# Altium schematic symbol library мс импортные.SchLib: 172 symbols
Pins are listed as number, name and electrical type; pins without a type are passive.

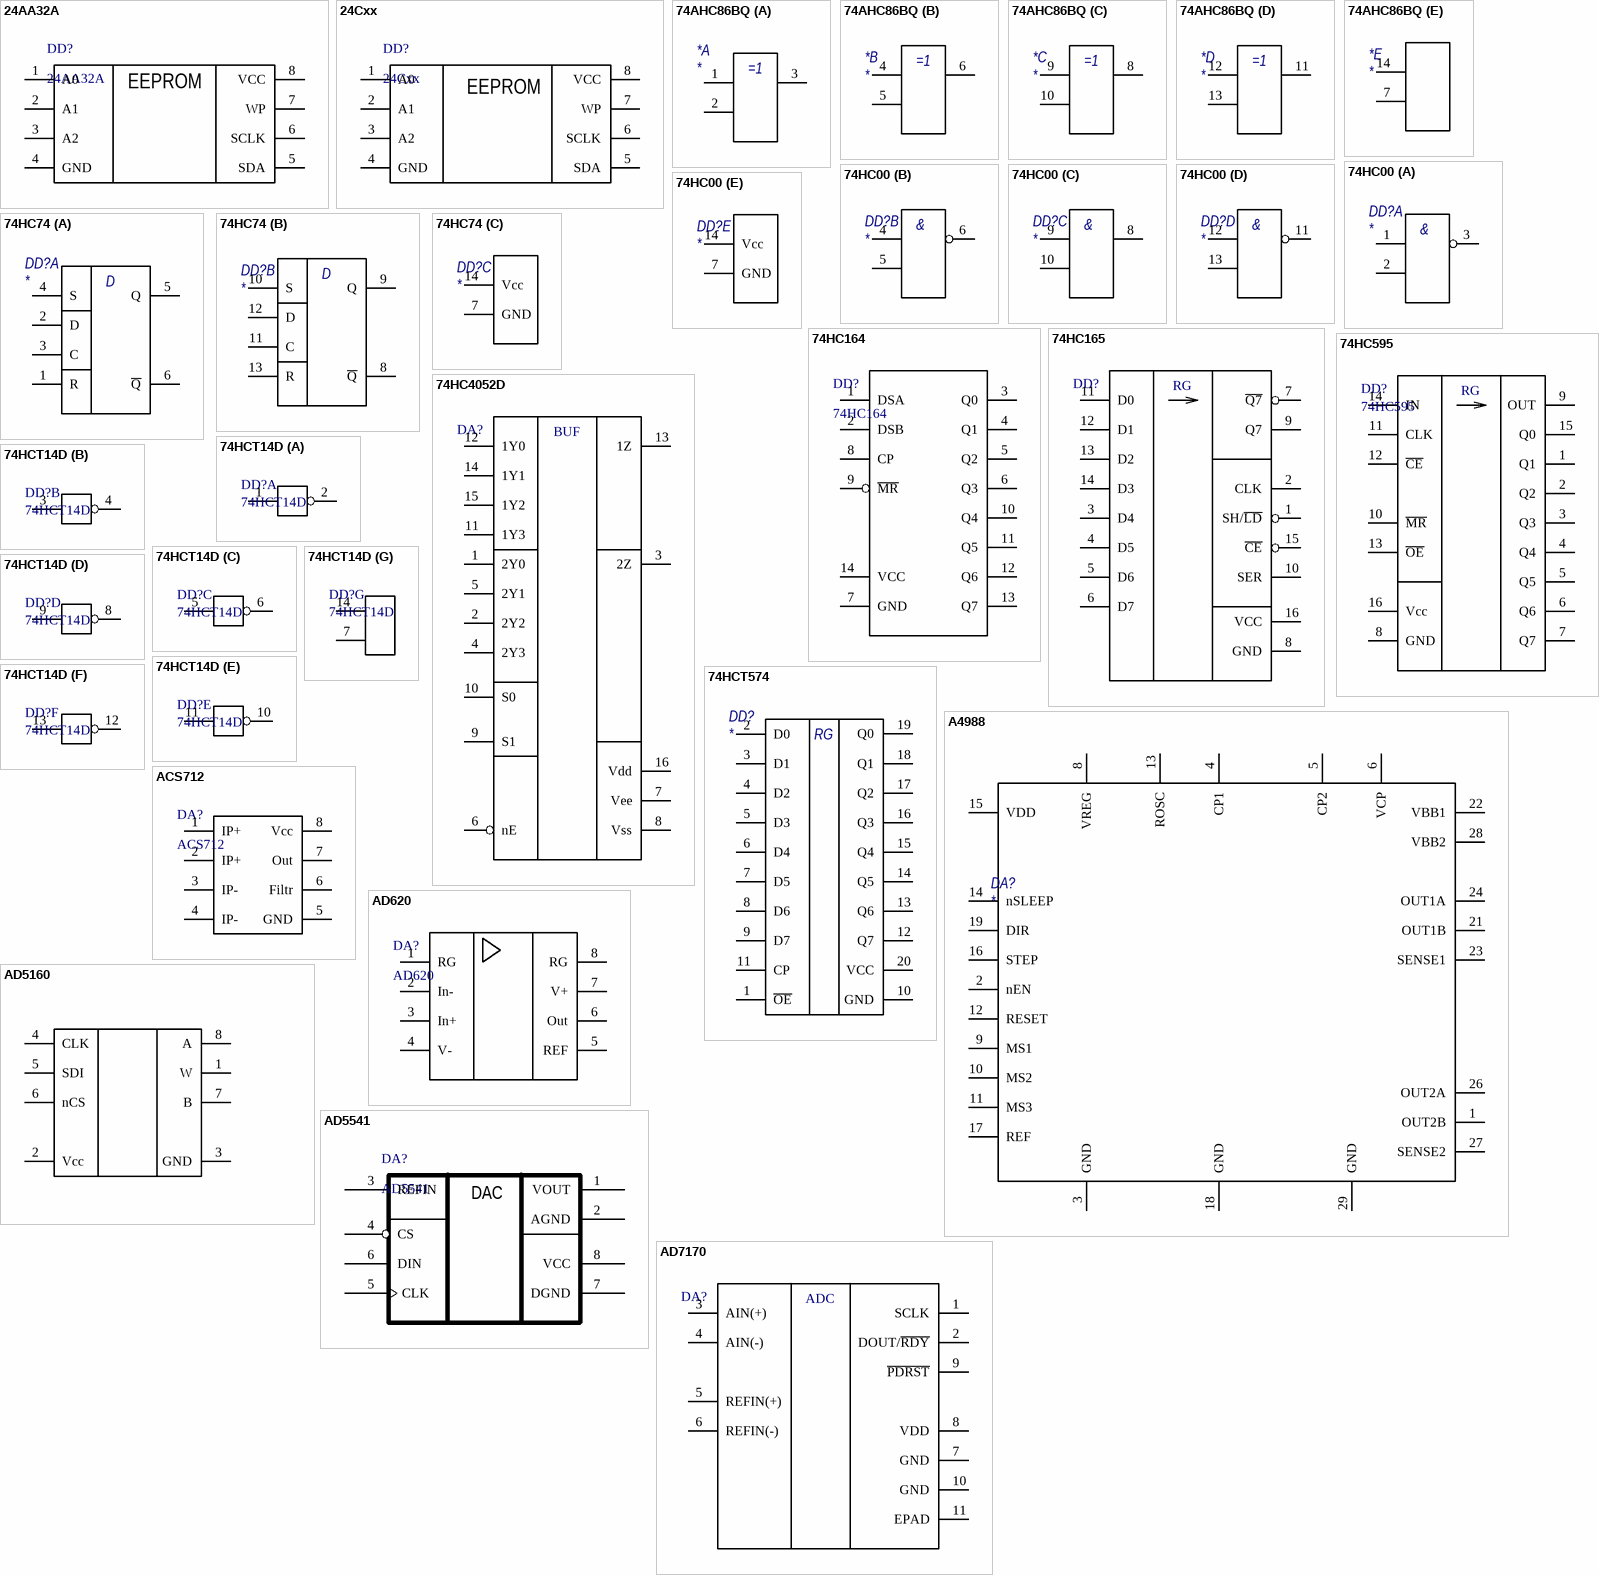
[diagram p0: symbols 24AA32A to AD7170]

## 24AA32A
designator DD?
footprint TSSOP8 (TSOP, 8-Leads, Body 3,00x4,40mm, Pitch 0,65mm, IPC Medium Density)
pins: 1 A0, 2 A1, 3 A2, 4 GND, 5 SDA, 6 SCLK, 7 WP, 8 VCC
text: EEPROM

## 24Cxx
designator DD?
footprint SO-8
pins: 1 A0, 2 A1, 3 A2, 4 GND, 5 SDA, 6 SCLK, 7 WP, 8 VCC
text: EEPROM

## 74AHC86BQ
designator *
part A pins: 1 1A, 2 1B, 3 1Y
part B pins: 4 2A, 5 2B, 6 2Y
part C pins: 8 3Y, 9 3A, 10 3B
part D pins: 11 4Y, 12 4A, 13 4B
part E pins: 7 GND, 14 Vcc

## 74HC00
designator DD?
part A pins: 1 1A, 2 1B, 3 1Y
part B pins: 4 2A, 5 2B, 6 2Y
part C pins: 8 3Y, 9 3A, 10 3B
part D pins: 11 4Y, 12 4A, 13 4B
part E pins: 7 GND, 14 Vcc
part A text: &
part B text: &
part C text: &
part D text: &

## 74HC74
designator DD?
part A pins: 1 R, 2 D, 3 C, 4 S, 5 Q, 6 ~{Q}
part B pins: 8 ~{Q}, 9 Q, 10 S, 11 C, 12 D, 13 R
part C pins: 7 GND, 14 Vcc

## 74HC164
designator DD?
footprint SOP14
pins: 1 DSA, 2 DSB, 3 Q0, 4 Q1, 5 Q2, 6 Q3, 7 GND, 8 CP, 9 ~{MR}, 10 Q4, 11 Q5, 12 Q6, 13 Q7, 14 VCC

## 74HC165
designator DD?  (value not drawn)
Manufacturer: Texas Instruments; ManufacturerPartNumber: SN74HC165DR; Package: SO-16
footprint SO-16 (SOIC, 16-Leads, Body 9,90x3,90mm, Pitch 1,27mm, IPC Medium Density)
pins: 1 SH/~{LD}, 2 CLK, 3 D4, 4 D5, 5 D6, 6 D7, 7 ~{Q7}, 8 GND, 9 Q7, 10 SER, 11 D0, 12 D1, 13 D2, 14 D3, 15 ~{CE}, 16 VCC
text: RG

## 74HC595
designator DD?
Manufacturer: Texas Instruments; ManufacturerPartNumber: SN74HC595D; Package: SO-16
footprint SO-16 (SOIC, 16-Leads, Body 9,90x3,90mm, Pitch 1,27mm, IPC Medium Density)
pins: 1 Q1, 2 Q2, 3 Q3, 4 Q4, 5 Q5, 6 Q6, 7 Q7, 8 GND, 9 OUT, 10 ~{MR}, 11 CLK, 12 ~{CE}, 13 ~{OE}, 14 IN, 15 Q0, 16 Vcc
text: RG

## 74HC4052D
designator DA?, comment 74HC4052D,653NEXPERIASO-16  (value not drawn)
74HC4052D; Rem: *; Package: SO-16; Value: *; Tolerance: *; Power/Voltage: *; TKE: *; ManufacturerPartNumber: 74HC4052D,653; Manufacturer: NEXPERIA; Quantity: *; Примечание: *; Price: *
footprint SO-16 (SOIC, 16-Leads, Body 9,90x3,90mm, Pitch 1,27mm, IPC Medium Density)
pins: 1 2Y0, 2 2Y2, 3 2Z, 4 2Y3, 5 2Y1, 6 nE, 7 Vee, 8 Vss, 9 S1, 10 S0, 11 1Y3, 12 1Y0, 13 1Z, 14 1Y1, 15 1Y2, 16 Vdd
text: BUF

## 74HCT14D
designator DD?
part A pins: 1, 2
part B pins: 3, 4
part C pins: 5, 6
part D pins: 8, 9
part E pins: 10, 11
part F pins: 12, 13
part G pins: 7 GND, 14 Vcc

## 74HCT574
designator DD?
pins: 1 ~{OE}, 2 D0, 3 D1 (power), 4 D2, 5 D3, 6 D4, 7 D5, 8 D6, 9 D7 (power), 10 GND, 11 CP, 12 Q7, 13 Q6, 14 Q5, 15 Q4, 16 Q3, 17 Q2, 18 Q1, 19 Q0, 20 VCC
text: RG

## A4988
designator DA?
pins: 1 OUT2B, 2 nEN, 3 GND, 4 CP1, 5 CP2, 6 VCP, 8 VREG, 9 MS1, 10 MS2, 11 MS3, 12 RESET, 13 ROSC, 14 nSLEEP, 15 VDD, 16 STEP, 17 REF, 18 GND, 19 DIR, 21 OUT1B, 22 VBB1, 23 SENSE1, 24 OUT1A, 26 OUT2A, 27 SENSE2, 28 VBB2, 29 GND

## ACS712
designator DA?
footprint SO-8
pins: 1 IP+, 2 IP+, 3 IP-, 4 IP-, 5 GND, 6 Filtr, 7 Out, 8 Vcc

## AD620
designator DA?
footprint DIP-8
pins: 1 RG, 2 In-, 3 In+, 4 V-, 5 REF, 6 Out, 7 V+, 8 RG

## AD5160
designator DA?
AD5160
pins: 1 W, 2 Vcc, 3 GND, 4 CLK, 5 SDI, 6 nCS, 7 B, 8 A

## AD5541
designator DA?
footprint SOIC-8
pins: 1 VOUT, 2 AGND, 3 REFIN, 4 CS, 5 CLK, 6 DIN, 7 DGND, 8 VCC
text: DAC

## AD7170
designator DA?, comment AD7170BCPZ-500RL7Analog DevicesLFCSP_WD  (value not drawn)
AD7170; Rem: *; Package: LFCSP_WD; Value: *; Tolerance: *; Power/Voltage: *; TKE: *; ManufacturerPartNumber: AD7170BCPZ-500RL7; Manufacturer: Analog Devices; Quantity: *; Примечание: *; Price: *
footprint LFCSP_WD_10
pins: 1 SCLK, 2 DOUT/~{RDY}, 3 AIN(+), 4 AIN(-), 5 REFIN(+), 6 REFIN(-), 7 GND, 8 VDD, 9 ~{PDRST}, 10 GND, 11 hidden to GND, 11 EPAD
text: ADC

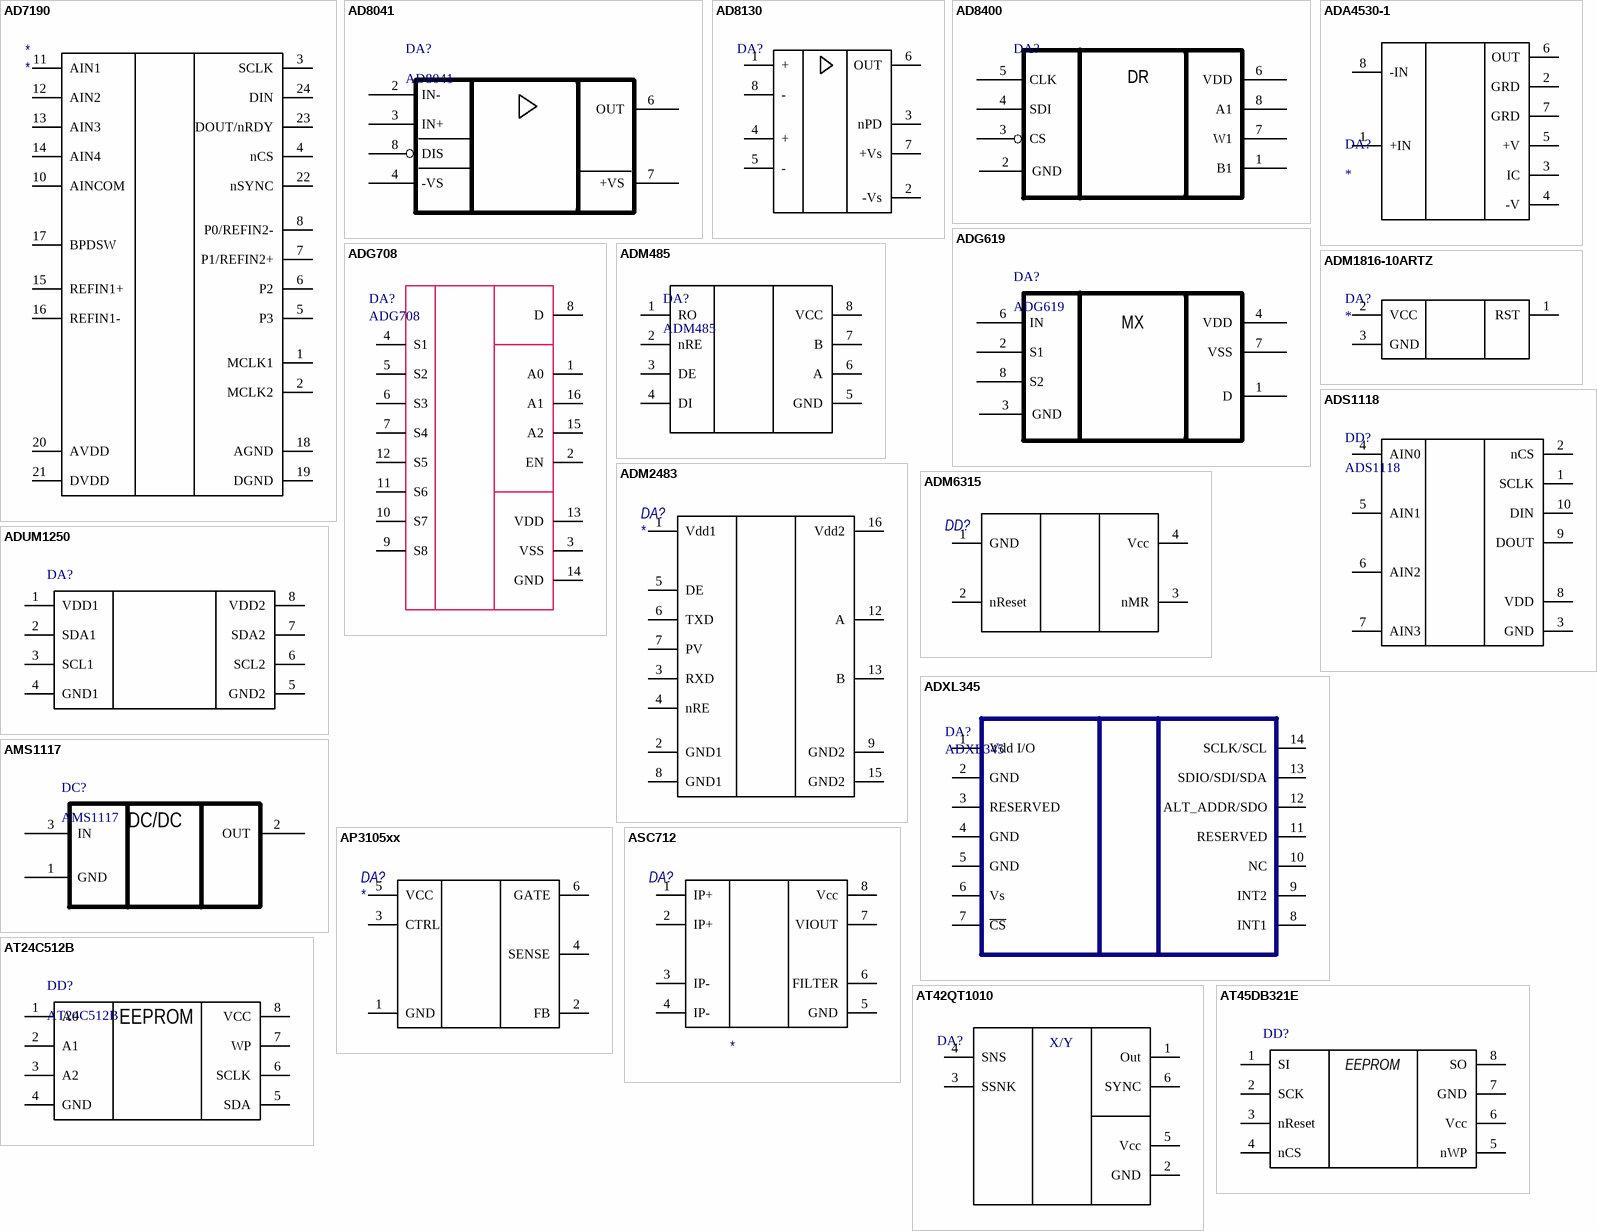
[diagram p1: symbols AD7190 to AT45DB321E]

## AD7190
designator *
pins: 1 MCLK1, 2 MCLK2, 3 SCLK, 4 nCS, 5 P3, 6 P2, 7 P1/REFIN2+, 8 P0/REFIN2-, 10 AINCOM, 11 AIN1, 12 AIN2, 13 AIN3, 14 AIN4, 15 REFIN1+, 16 REFIN1-, 17 BPDSW, 18 AGND, 19 DGND, 20 AVDD, 21 DVDD, 22 nSYNC, 23 DOUT/nRDY, 24 DIN

## AD8041
designator DA?
footprint SOIC-8
pins: 2 IN-, 3 IN+, 4 -VS, 6 OUT, 7 +VS, 8 DIS

## AD8130
designator DA?, comment ***  (value not drawn)
Rem: *; Package: *; Value: *; Tolerance: *; Power/Voltage: *; TKE: *; ManufacturerPartNumber: *; Manufacturer: *; Quantity: *; Примечание: *
pins: 1 +, 2 -Vs, 3 nPD, 4 +, 5 -, 6 OUT, 7 +Vs, 8 -

## AD8400
designator DA?  (value not drawn)
footprint SOIC-8
pins: 1 B1, 2 GND, 3 CS, 4 SDI, 5 CLK, 6 VDD, 7 W1, 8 A1
text: DR

## ADA4530-1
designator DA?
pins: 1 +IN, 2 GRD, 3 IC, 4 -V, 5 +V, 6 OUT, 7 GRD, 8 -IN

## ADG619
designator DA?
footprint SOT23-8
pins: 1 D, 2 S1, 3 GND, 4 VDD, 6 IN, 7 VSS, 8 S2
text: MX

## ADG708
designator DA?
footprint TSSOP16 (SOP, 16-Leads, Body 5,00x4,40mm, Pitch 0,65mm, IPC Medium Density)
pins: 1 A0, 2 EN, 3 VSS, 4 S1, 5 S2, 6 S3, 7 S4, 8 D, 9 S8, 10 S7, 11 S6, 12 S5, 13 VDD, 14 GND, 15 A2, 16 A1

## ADM485
designator DA?
footprint SO-8
pins: 1 RO, 2 nRE, 3 DE, 4 DI, 5 GND, 6 A, 7 B, 8 VCC

## ADM1816-10ARTZ
designator DA?
pins: 1 RST, 2 VCC, 3 GND

## ADM2483
designator DA?
ADM2483
pins: 1 Vdd1, 2 GND1, 3 RXD, 4 nRE, 5 DE, 6 TXD, 7 PV, 8 GND1, 9 GND2, 12 A, 13 B, 15 GND2, 16 Vdd2

## ADM6315
designator DD?  (value not drawn)
pins: 1 GND, 2 nReset, 3 nMR, 4 Vcc

## ADS1118
designator DD?
footprint TSSOP8 (TSOP, 8-Leads, Body 3,00x4,40mm, Pitch 0,65mm, IPC Medium Density)
pins: 1 SCLK, 2 nCS, 3 GND, 4 AIN0, 5 AIN1, 6 AIN2, 7 AIN3, 8 VDD, 9 DOUT, 10 DIN

## ADUM1250
designator DA?
pins: 1 VDD1, 2 SDA1, 3 SCL1, 4 GND1, 5 GND2, 6 SCL2, 7 SDA2, 8 VDD2

## ADXL345
designator DA?
footprint ADXL345
pins: 1 Vdd I/O, 2 GND, 3 RESERVED, 4 GND, 5 GND, 6 Vs, 7 ~{CS}, 8 INT1, 9 INT2, 10 NC, 11 RESERVED, 12 ALT_ADDR/SDO, 13 SDIO/SDI/SDA, 14 SCLK/SCL

## AMS1117
designator DC?
footprint TO252
pins: 1 GND, 2 OUT, 3 IN
text: DC/DC

## AP3105xx
designator DA?
pins: 1 GND, 2 FB, 3 CTRL, 4 SENSE, 5 VCC, 6 GATE

## ASC712
designator DA?
ManufacturerPartNumber: *
pins: 1 IP+, 2 IP+, 3 IP-, 4 IP-, 5 GND, 6 FILTER, 7 VIOUT, 8 Vcc

## AT24C512B
designator DD?
footprint SOIC-8
pins: 1 A0, 2 A1, 3 A2, 4 GND, 5 SDA, 6 SCLK, 7 WP, 8 VCC
text: EEPROM

## AT42QT1010
designator DA?, comment ***  (value not drawn)
Rem: *; Package: *; Value: *; Tolerance: *; Power/Voltage: *; TKE: *; ManufacturerPartNumber: *; Manufacturer: *; Quantity: *; Примечание: *
footprint SOT23-6 (SOT23, 6-Leads, Body 2,90x2,45mm, Pitch 0,95mm, IPC Medium Density)
pins: 1 Out, 2 GND, 3 SSNK, 4 SNS, 5 Vcc, 6 SYNC
text: X/Y

## AT45DB321E
designator DD?
footprint SOIC-8
pins: 1 SI, 2 SCK, 3 nReset, 4 nCS, 5 nWP, 6 Vcc, 7 GND, 8 SO
text: EEPROM

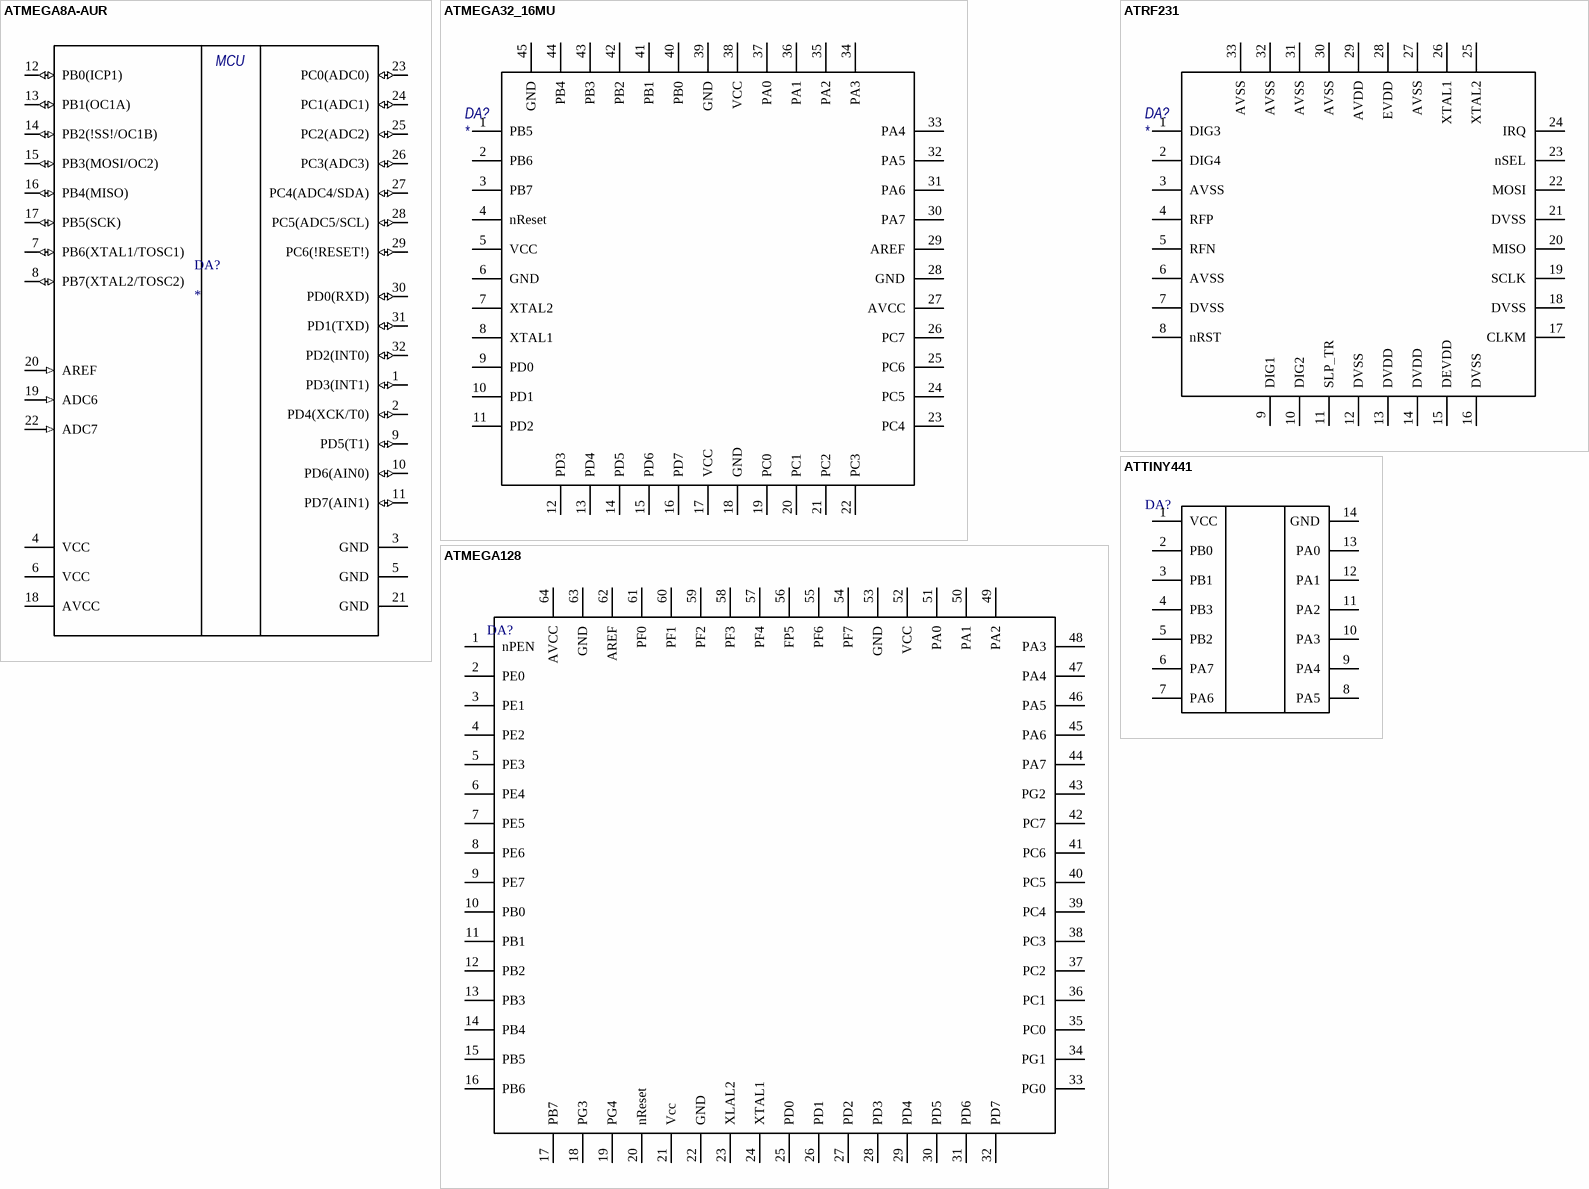
[diagram p2: symbols ATMEGA8A-AUR to ATTINY441]

## ATMEGA8A-AUR
designator DA?
ATMEGA8A-AUR; MF: Microchip; MP: ATMEGA8A-AUR; Availability: Unavailable; Package: TQFP-32 Microchip; Value: *; Price: None; SnapEDA_Link: https://www.snapeda.com/parts/ATMEGA8A-AUR/Microchip/view-part/630535/?ref=snap
footprint QFP80P900X900X120-32N
pins: 1 PD3(INT1) (io), 2 PD4(XCK/T0) (io), 3 GND (power), 4 VCC (power), 5 GND (power), 6 VCC (power), 7 PB6(XTAL1/TOSC1) (io), 8 PB7(XTAL2/TOSC2) (io), 9 PD5(T1) (io), 10 PD6(AIN0) (io), 11 PD7(AIN1) (io), 12 PB0(ICP1) (io), 13 PB1(OC1A) (io), 14 PB2(!SS!/OC1B) (io), 15 PB3(MOSI/OC2) (io), 16 PB4(MISO) (io), 17 PB5(SCK) (io), 18 AVCC (power), 19 ADC6 (in), 20 AREF (in), 21 GND (power), 22 ADC7 (in), 23 PC0(ADC0) (io), 24 PC1(ADC1) (io), 25 PC2(ADC2) (io), 26 PC3(ADC3) (io), 27 PC4(ADC4/SDA) (io), 28 PC5(ADC5/SCL) (io), 29 PC6(!RESET!) (io), 30 PD0(RXD) (io), 31 PD1(TXD) (io), 32 PD2(INT0) (io)
text: MCU

## ATMEGA32_16MU
designator DA?
pins: 1 PB5, 2 PB6, 3 PB7, 4 nReset, 5 VCC, 6 GND, 7 XTAL2, 8 XTAL1, 9 PD0, 10 PD1, 11 PD2, 12 PD3, 13 PD4, 14 PD5, 15 PD6, 16 PD7, 17 VCC, 18 GND, 19 PC0, 20 PC1, 21 PC2, 22 PC3, 23 PC4, 24 PC5, 25 PC6, 26 PC7, 27 AVCC, 28 GND, 29 AREF, 30 PA7, 31 PA6, 32 PA5, 33 PA4, 34 PA3, 35 PA2, 36 PA1, 37 PA0, 38 VCC, 39 GND, 40 PB0, 41 PB1, 42 PB2, 43 PB3, 44 PB4, 45 GND

## ATMEGA128
designator DA?  (value not drawn)
ATMEGA128
pins: 1 nPEN, 2 PE0, 3 PE1, 4 PE2, 5 PE3, 6 PE4, 7 PE5, 8 PE6, 9 PE7, 10 PB0, 11 PB1, 12 PB2, 13 PB3, 14 PB4, 15 PB5, 16 PB6, 17 PB7, 18 PG3, 19 PG4, 20 nReset, 21 Vcc, 22 GND, 23 XLAL2, 24 XTAL1, 25 PD0, 26 PD1, 27 PD2, 28 PD3, 29 PD4, 30 PD5, 31 PD6, 32 PD7, 33 PG0, 34 PG1, 35 PC0, 36 PC1, 37 PC2, 38 PC3, 39 PC4, 40 PC5, 41 PC6, 42 PC7, 43 PG2, 44 PA7, 45 PA6, 46 PA5, 47 PA4, 48 PA3, 49 PA2, 50 PA1, 51 PA0, 52 VCC, 53 GND, 54 PF7, 55 PF6, 56 FP5, 57 PF4, 58 PF3, 59 PF2, 60 PF1, 61 PF0, 62 AREF, 63 GND, 64 AVCC

## ATRF231
designator DA?
pins: 1 DIG3, 2 DIG4, 3 AVSS, 4 RFP, 5 RFN, 6 AVSS, 7 DVSS, 8 nRST, 9 DIG1, 10 DIG2, 11 SLP_TR, 12 DVSS, 13 DVDD, 14 DVDD, 15 DEVDD, 16 DVSS, 17 CLKM, 18 DVSS, 19 SCLK, 20 MISO, 21 DVSS, 22 MOSI, 23 nSEL, 24 IRQ, 25 XTAL2, 26 XTAL1, 27 AVSS, 28 EVDD, 29 AVDD, 30 AVSS, 31 AVSS, 32 AVSS, 33 AVSS

## ATTINY441
designator DA?  (value not drawn)
pins: 1 VCC, 2 PB0, 3 PB1, 4 PB3, 5 PB2, 6 PA7, 7 PA6, 8 PA5, 9 PA4, 10 PA3, 11 PA2, 12 PA1, 13 PA0, 14 GND

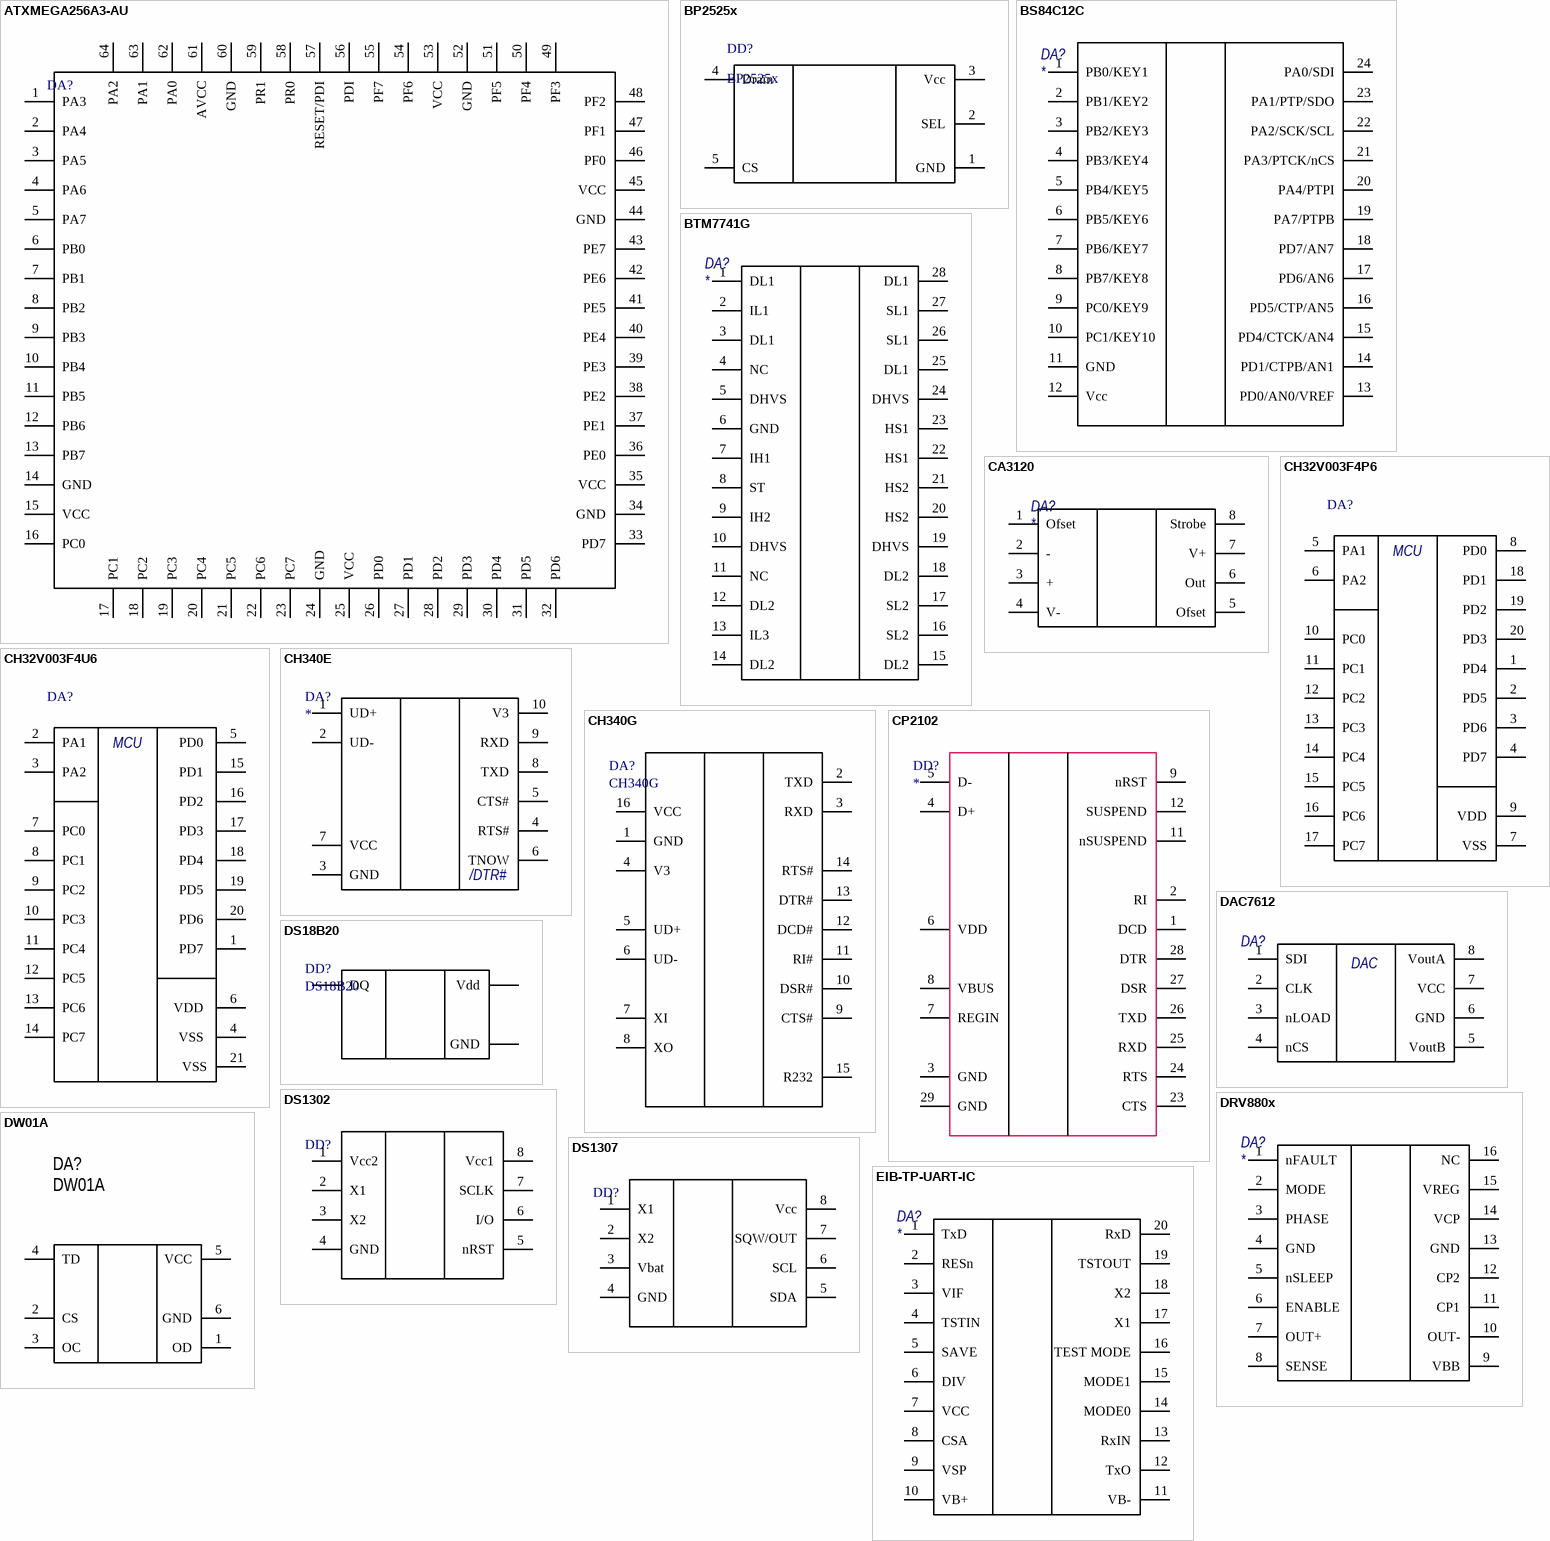
[diagram p3: symbols ATXMEGA256A3-AU to EIB-TP-UART-IC]

## ATXMEGA256A3-AU
designator DA?  (value not drawn)
ATXMEGA256A3-AU
pins: 1 PA3, 2 PA4, 3 PA5, 4 PA6, 5 PA7, 6 PB0, 7 PB1, 8 PB2, 9 PB3, 10 PB4, 11 PB5, 12 PB6, 13 PB7, 14 GND, 15 VCC, 16 PC0, 17 PC1, 18 PC2, 19 PC3, 20 PC4, 21 PC5, 22 PC6, 23 PC7, 24 GND, 25 VCC, 26 PD0, 27 PD1, 28 PD2, 29 PD3, 30 PD4, 31 PD5, 32 PD6, 33 PD7, 34 GND, 35 VCC, 36 PE0, 37 PE1, 38 PE2, 39 PE3, 40 PE4, 41 PE5, 42 PE6, 43 PE7, 44 GND, 45 VCC, 46 PF0, 47 PF1, 48 PF2, 49 PF3, 50 PF4, 51 PF5, 52 GND, 53 VCC, 54 PF6, 55 PF7, 56 PDI, 57 RESET/PDI, 58 PR0, 59 PR1, 60 GND, 61 AVCC, 62 PA0, 63 PA1, 64 PA2

## BP2525x
designator DD?
pins: 1 GND, 2 SEL, 3 Vcc, 4 Drain, 5 CS

## BS84C12C
designator DA?
pins: 1 PB0/KEY1, 2 PB1/KEY2, 3 PB2/KEY3, 4 PB3/KEY4, 5 PB4/KEY5, 6 PB5/KEY6, 7 PB6/KEY7, 8 PB7/KEY8, 9 PC0/KEY9  , 10 PC1/KEY10, 11 GND, 12 Vcc, 13 PD0/AN0/VREF, 14 PD1/CTPB/AN1, 15 PD4/CTCK/AN4, 16 PD5/CTP/AN5, 17 PD6/AN6, 18 PD7/AN7, 19 PA7/PTPB, 20 PA4/PTPI, 21 PA3/PTCK/nCS, 22 PA2/SCK/SCL, 23 PA1/PTP/SDO, 24 PA0/SDI

## BTM7741G
designator DA?
pins: 1 DL1, 2 IL1, 3 DL1, 4 NC, 5 DHVS, 6 GND, 7 IH1, 8 ST, 9 IH2, 10 DHVS, 11 NC, 12 DL2, 13 IL3, 14 DL2, 15 DL2, 16 SL2, 17 SL2, 18 DL2, 19 DHVS, 20 HS2, 21 HS2, 22 HS1, 23 HS1, 24 DHVS, 25 DL1, 26 SL1, 27 SL1, 28 DL1

## CA3120
designator DA?
pins: 1 Ofset, 2 -, 3 +, 4 V-, 5 Ofset, 6 Out, 7 V+, 8 Strobe

## CH32V003F4P6
designator DA?  (value not drawn)
pins: 1 PD4, 2 PD5, 3 PD6, 4 PD7, 5 PA1, 6 PA2, 7 VSS, 8 PD0, 9 VDD, 10 PC0, 11 PC1, 12 PC2, 13 PC3, 14 PC4, 15 PC5, 16 PC6, 17 PC7, 18 PD1, 19 PD2, 20 PD3
text: MCU

## CH32V003F4U6
designator DA?  (value not drawn)
pins: 1 PD7 , 2 PA1 , 3 PA2 , 4 VSS , 5 PD0 , 6 VDD , 7 PC0 , 8 PC1 , 9 PC2 , 10 PC3 , 11 PC4 , 12 PC5 , 13 PC6 , 14 PC7 , 15 PD1 , 16 PD2 , 17 PD3 , 18 PD4 , 19 PD5 , 20 PD6 , 21 VSS
text: MCU

## CH340E
designator DA?
footprint MSOIC-10
pins: 1 UD+, 2 UD-, 3 GND, 4 RTS#, 5 CTS#, 6 TNOW, 7 VCC, 8 TXD, 9 RXD, 10 V3
text: /DTR#

## CH340G
designator DA?
footprint SO16 (SOIC, 16-Leads, Body 9,90x0,18mm, Pitch 1,27mm, IPC Medium Density)
pins: 1 GND, 2 TXD, 3 RXD, 4 V3, 5 UD+, 6 UD-, 7 XI, 8 XO, 9 CTS#, 10 DSR#, 11 RI#, 12 DCD#, 13 DTR#, 14 RTS#, 15 R232, 16 VCC

## CP2102
designator DD?
pins: 1 DCD, 2 RI, 3 GND, 4 D+, 5 D-, 6 VDD, 7 REGIN, 8 VBUS, 9 nRST, 11 nSUSPEND, 12   SUSPEND, 23 CTS, 24 RTS, 25 RXD, 26 TXD, 27 DSR, 28 DTR, 29 GND

## DAC7612
designator DA?  (value not drawn)
pins: 1 SDI, 2 CLK, 3 nLOAD, 4 nCS, 5 VoutB, 6 GND, 7 VCC, 8 VoutA
text: DAC

## DRV880x
designator DA?
pins: 1 nFAULT, 2 MODE, 3 PHASE, 4 GND, 5 nSLEEP, 6 ENABLE, 7 OUT+, 8 SENSE, 9 VBB, 10 OUT-, 11 CP1, 12 CP2, 13 GND, 14 VCP, 15 VREG, 16 NC

## DS18B20
designator DD?
pins: 1 GND, 2 DQ, 3 Vdd

## DS1302
designator DD?, comment ***  (value not drawn)
Rem: *; Package: *; Value: *; Tolerance: *; Power/Voltage: *; TKE: *; ManufacturerPartNumber: *; Manufacturer: *; Quantity: *; Примечание: *
footprint SO-8
pins: 1 Vcc2, 2 X1, 3 X2, 4 GND, 5 nRST, 6 I/O, 7 SCLK, 8 Vcc1

## DS1307
designator DD?, comment ***  (value not drawn)
Rem: *; Package: *; Value: *; Tolerance: *; Power/Voltage: *; TKE: *; ManufacturerPartNumber: *; Manufacturer: *; Quantity: *; Примечание: *
footprint SO-8
pins: 1 X1, 2 X2, 3 Vbat, 4 GND, 5 SDA, 6 SCL, 7 SQW/OUT, 8 Vcc

## DW01A
designator DA?
footprint SOT23-6 (SOT23, 6-Leads, Body 2,90x2,45mm, Pitch 0,95mm, IPC Medium Density)
pins: 1 OD, 2 CS, 3 OC, 4 TD, 5 VCC, 6 GND

## EIB-TP-UART-IC
designator DA?
pins: 1 TxD, 2 RESn, 3 VIF, 4 TSTIN, 5 SAVE, 6 DIV, 7 VCC, 8 CSA, 9 VSP, 10 VB+, 11 VB-, 12 TxO, 13 RxIN, 14 MODE0, 15 MODE1, 16 TEST MODE, 17 X1, 18 X2, 19 TSTOUT, 20 RxD

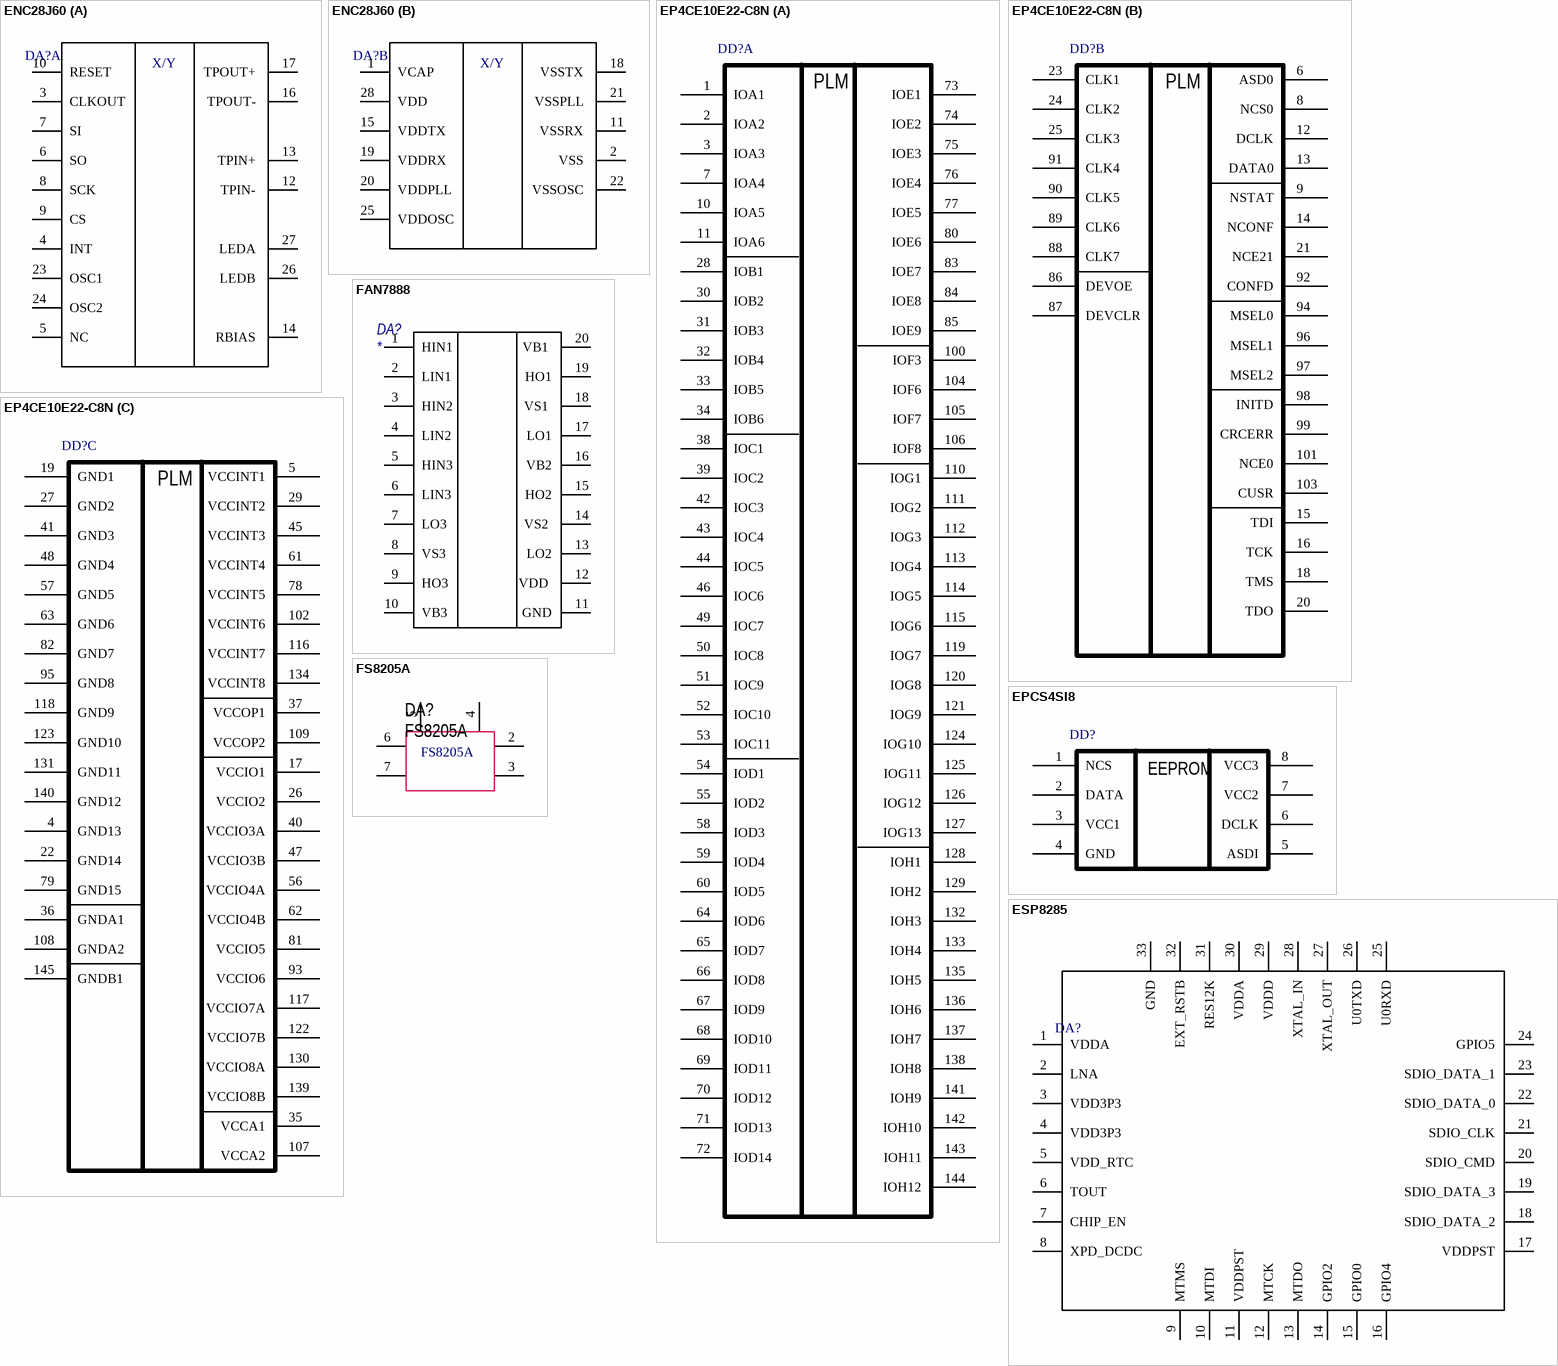
[diagram p4: symbols ENC28J60 to FS8205A]

## ENC28J60
designator DA?, comment ***  (value not drawn)
Rem: *; Package: *; Value: *; Tolerance: *; Power/Voltage: *; TKE: *; ManufacturerPartNumber: *; Manufacturer: *; Quantity: *; Примечание: *
part A pins: 3 CLKOUT , 4 INT , 5 NC , 6 SO , 7 SI , 8 SCK , 9 CS , 10 RESET , 12 TPIN- , 13 TPIN+ , 14 RBIAS , 16 TPOUT- , 17 TPOUT+ , 23 OSC1 , 24 OSC2 , 26 LEDB , 27 LEDA 
part B pins: 1 VCAP , 2 VSS , 11 VSSRX , 15 VDDTX , 18 VSSTX , 19 VDDRX , 20 VDDPLL , 21 VSSPLL , 22 VSSOSC , 25 VDDOSC , 28 VDD 
part A text: X/Y
part B text: X/Y

## EP4CE10E22-C8N
designator DD?  (value not drawn)
footprint EQFP144
part A pins: 1 IOA1, 2 IOA2, 3 IOA3, 7 IOA4, 10 IOA5, 11 IOA6, 28 IOB1, 30 IOB2, 31 IOB3, 32 IOB4, 33 IOB5, 34 IOB6, 38 IOC1, 39 IOC2, 42 IOC3, 43 IOC4, 44 IOC5, 46 IOC6, 49 IOC7, 50 IOC8, 51 IOC9, 52 IOC10, 53 IOC11, 54 IOD1, 55 IOD2, 58 IOD3, 59 IOD4, 60 IOD5, 64 IOD6, 65 IOD7, 66 IOD8, 67 IOD9, 68 IOD10, 69 IOD11, 70 IOD12, 71 IOD13, 72 IOD14, 73 IOE1, 74 IOE2, 75 IOE3, 76 IOE4, 77 IOE5, 80 IOE6, 83 IOE7, 84 IOE8, 85 IOE9, 100 IOF3, 104 IOF6, 105 IOF7, 106 IOF8, 110 IOG1, 111 IOG2, 112 IOG3, 113 IOG4, 114 IOG5, 115 IOG6, 119 IOG7, 120 IOG8, 121 IOG9, 124 IOG10, 125 IOG11, 126 IOG12, 127 IOG13, 128 IOH1, 129 IOH2, 132 IOH3, 133 IOH4, 135 IOH5, 136 IOH6, 137 IOH7, 138 IOH8, 141 IOH9, 142 IOH10, 143 IOH11, 144 IOH12
part B pins: 6 ASD0, 8 NCS0, 9 NSTAT, 12 DCLK, 13 DATA0, 14 NCONF, 15 TDI, 16 TCK, 18 TMS, 20 TDO, 21 NCE21, 23 CLK1, 24 CLK2, 25 CLK3, 86 DEVOE, 87 DEVCLR, 88 CLK7, 89 CLK6, 90 CLK5, 91 CLK4, 92 CONFD, 94 MSEL0, 96 MSEL1, 97 MSEL2, 98 INITD, 99 CRCERR, 101 NCE0, 103 CUSR
part C pins: 4 GND13, 5 VCCINT1, 17 VCCIO1, 19 GND1, 22 GND14, 26 VCCIO2, 27 GND2, 29 VCCINT2, 35 VCCA1, 36 GNDA1, 37 VCCOP1, 40 VCCIO3A, 41 GND3, 45 VCCINT3, 47 VCCIO3B, 48 GND4, 56 VCCIO4A, 57 GND5, 61 VCCINT4, 62 VCCIO4B, 63 GND6, 78 VCCINT5, 79 GND15, 81 VCCIO5, 82 GND7, 93 VCCIO6, 95 GND8, 102 VCCINT6, 107 VCCA2, 108 GNDA2, 109 VCCOP2, 116 VCCINT7, 117 VCCIO7A, 118 GND9, 122 VCCIO7B, 123 GND10, 130 VCCIO8A, 131 GND11, 134 VCCINT8, 139 VCCIO8B, 140 GND12, 145 GNDB1
part A text: PLM
part B text: PLM
part C text: PLM

## EPCS4SI8
designator DD?  (value not drawn)
footprint SOIC-8
pins: 1 NCS, 2 DATA, 3 VCC1, 4 GND, 5 ASDI, 6 DCLK, 7 VCC2, 8 VCC3
text: EEPROM

## ESP8285
designator DA?  (value not drawn)
ESP8285
pins: 1 VDDA, 2 LNA, 3 VDD3P3, 4 VDD3P3, 5 VDD_RTC, 6 TOUT, 7 CHIP_EN, 8 XPD_DCDC, 9 MTMS, 10 MTDI, 11 VDDPST, 12 MTCK, 13 MTDO, 14 GPIO2, 15 GPIO0, 16 GPIO4, 17 VDDPST, 18 SDIO_DATA_2, 19 SDIO_DATA_3, 20 SDIO_CMD, 21 SDIO_CLK, 22 SDIO_DATA_0, 23 SDIO_DATA_1, 24 GPIO5, 25 U0RXD, 26 U0TXD, 27 XTAL_OUT, 28 XTAL_IN, 29 VDDD, 30 VDDA, 31 RES12K, 32 EXT_RSTB, 33 GND

## FAN7888
designator DA?
pins: 1 HIN1, 2 LIN1, 3 HIN2, 4 LIN2, 5 HIN3, 6 LIN3, 7 LO3, 8 VS3 , 9 HO3, 10 VB3 , 11 GND, 12 VDD , 13 LO2, 14 VS2 , 15 HO2, 16 VB2, 17 LO1, 18 VS1 , 19 HO1, 20 VB1 

## FS8205A
designator DA?
footprint TSSOP8 (TSOP, 8-Leads, Body 3,00x4,40mm, Pitch 0,65mm, IPC Medium Density)
pins: 2, 3, 4, 5, 6, 7

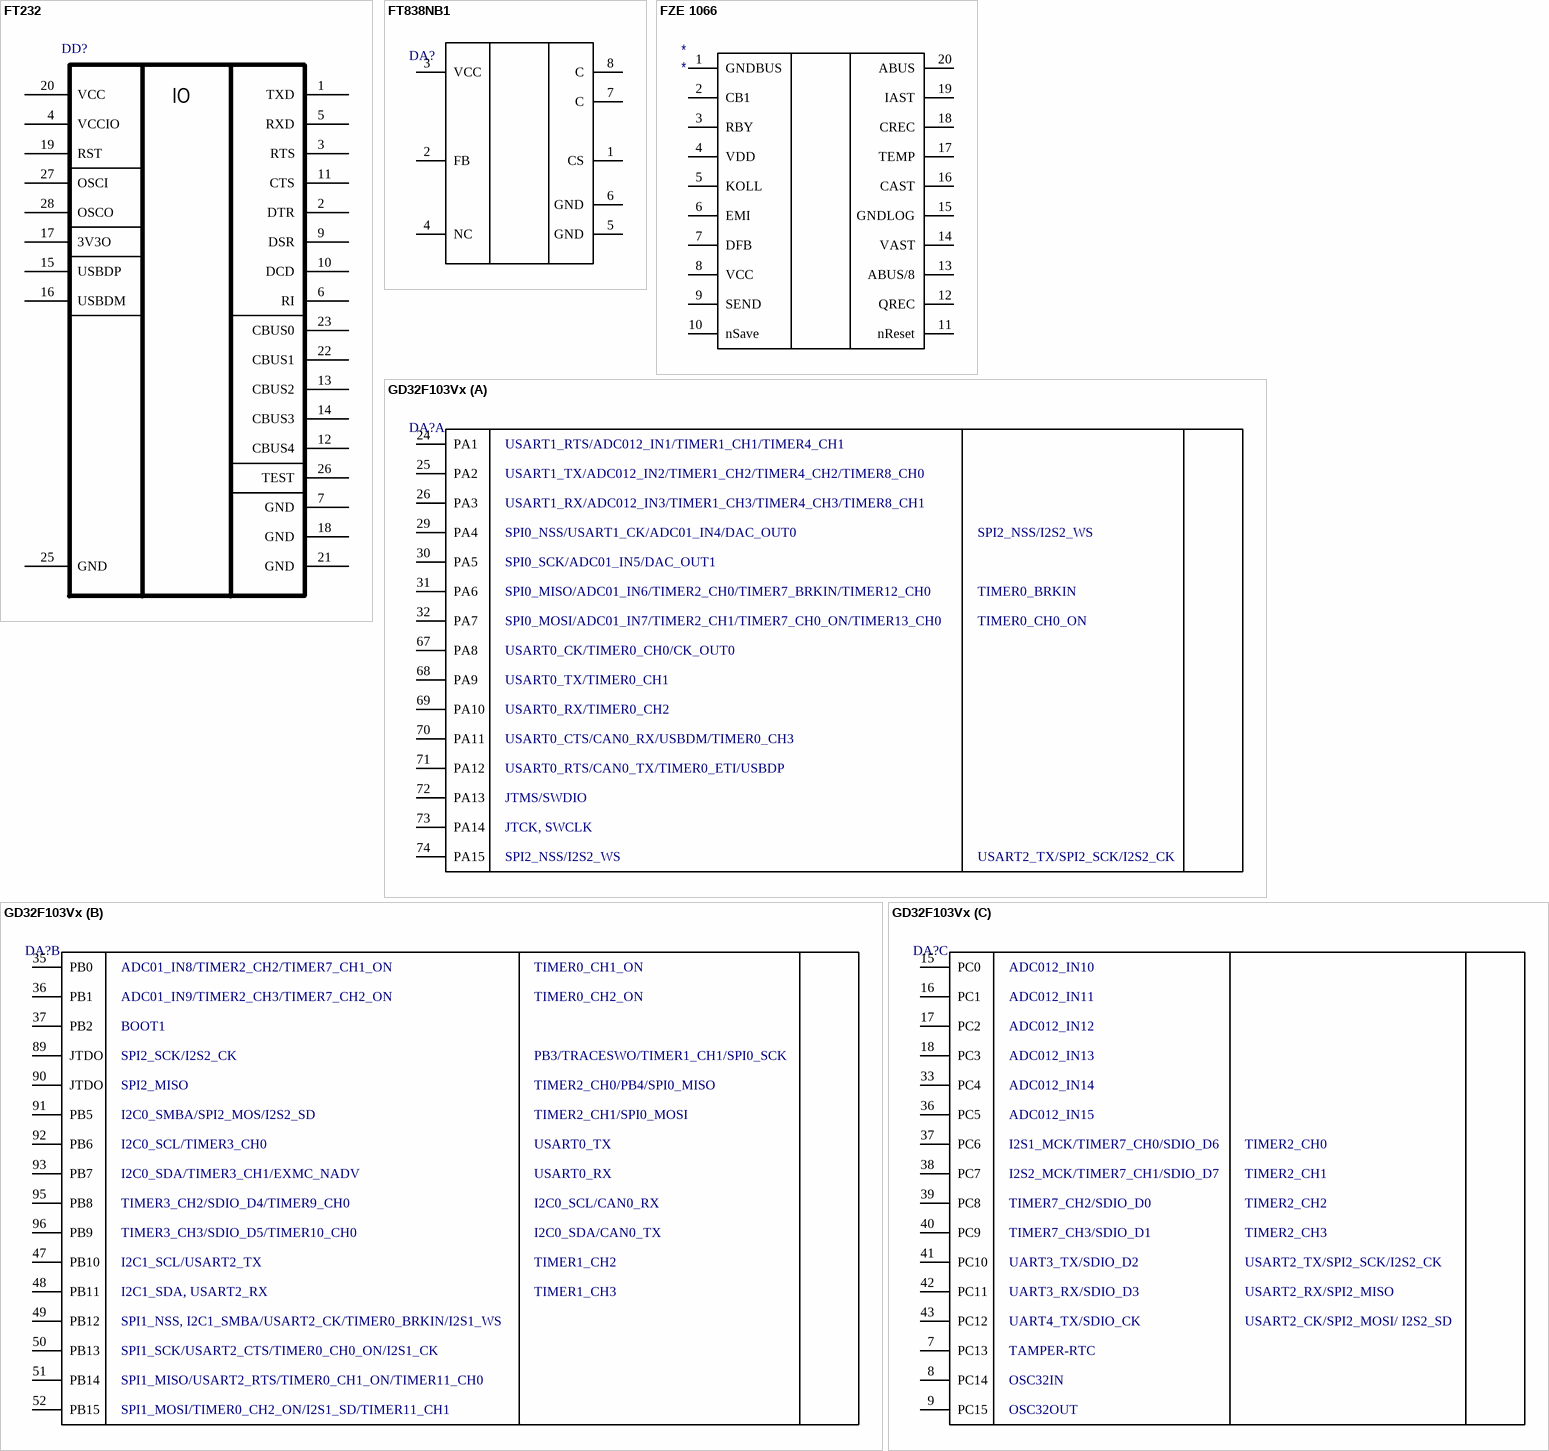
[diagram p5: symbols FT232 to GD32F103Vx]

## FT232
designator DD?  (value not drawn)
footprint SSOP-28
pins: 1 TXD, 2 DTR, 3 RTS, 4 VCCIO, 5 RXD, 6 RI, 7 GND, 9 DSR, 10 DCD, 11 CTS, 12 CBUS4, 13 CBUS2, 14 CBUS3, 15 USBDP, 16 USBDM, 17 3V3O, 18 GND, 19 RST, 20 VCC, 21 GND, 22 CBUS1, 23 CBUS0, 25 GND, 26 TEST, 27 OSCI, 28 OSCO
text: IO

## FT838NB1
designator DA?  (value not drawn)
FT838NB1
pins: 1 CS, 2 FB, 3 VCC, 4 NC, 5 GND, 6 GND, 7 C, 8 C

## FZE 1066
designator *
pins: 1 GNDBUS, 2 CB1, 3 RBY, 4 VDD, 5 KOLL, 6 EMI, 7 DFB, 8 VCC, 9 SEND, 10 nSave, 11 nReset, 12 QREC, 13 ABUS/8, 14 VAST, 15 GNDLOG, 16 CAST, 17 TEMP, 18 CREC, 19 IAST, 20 ABUS

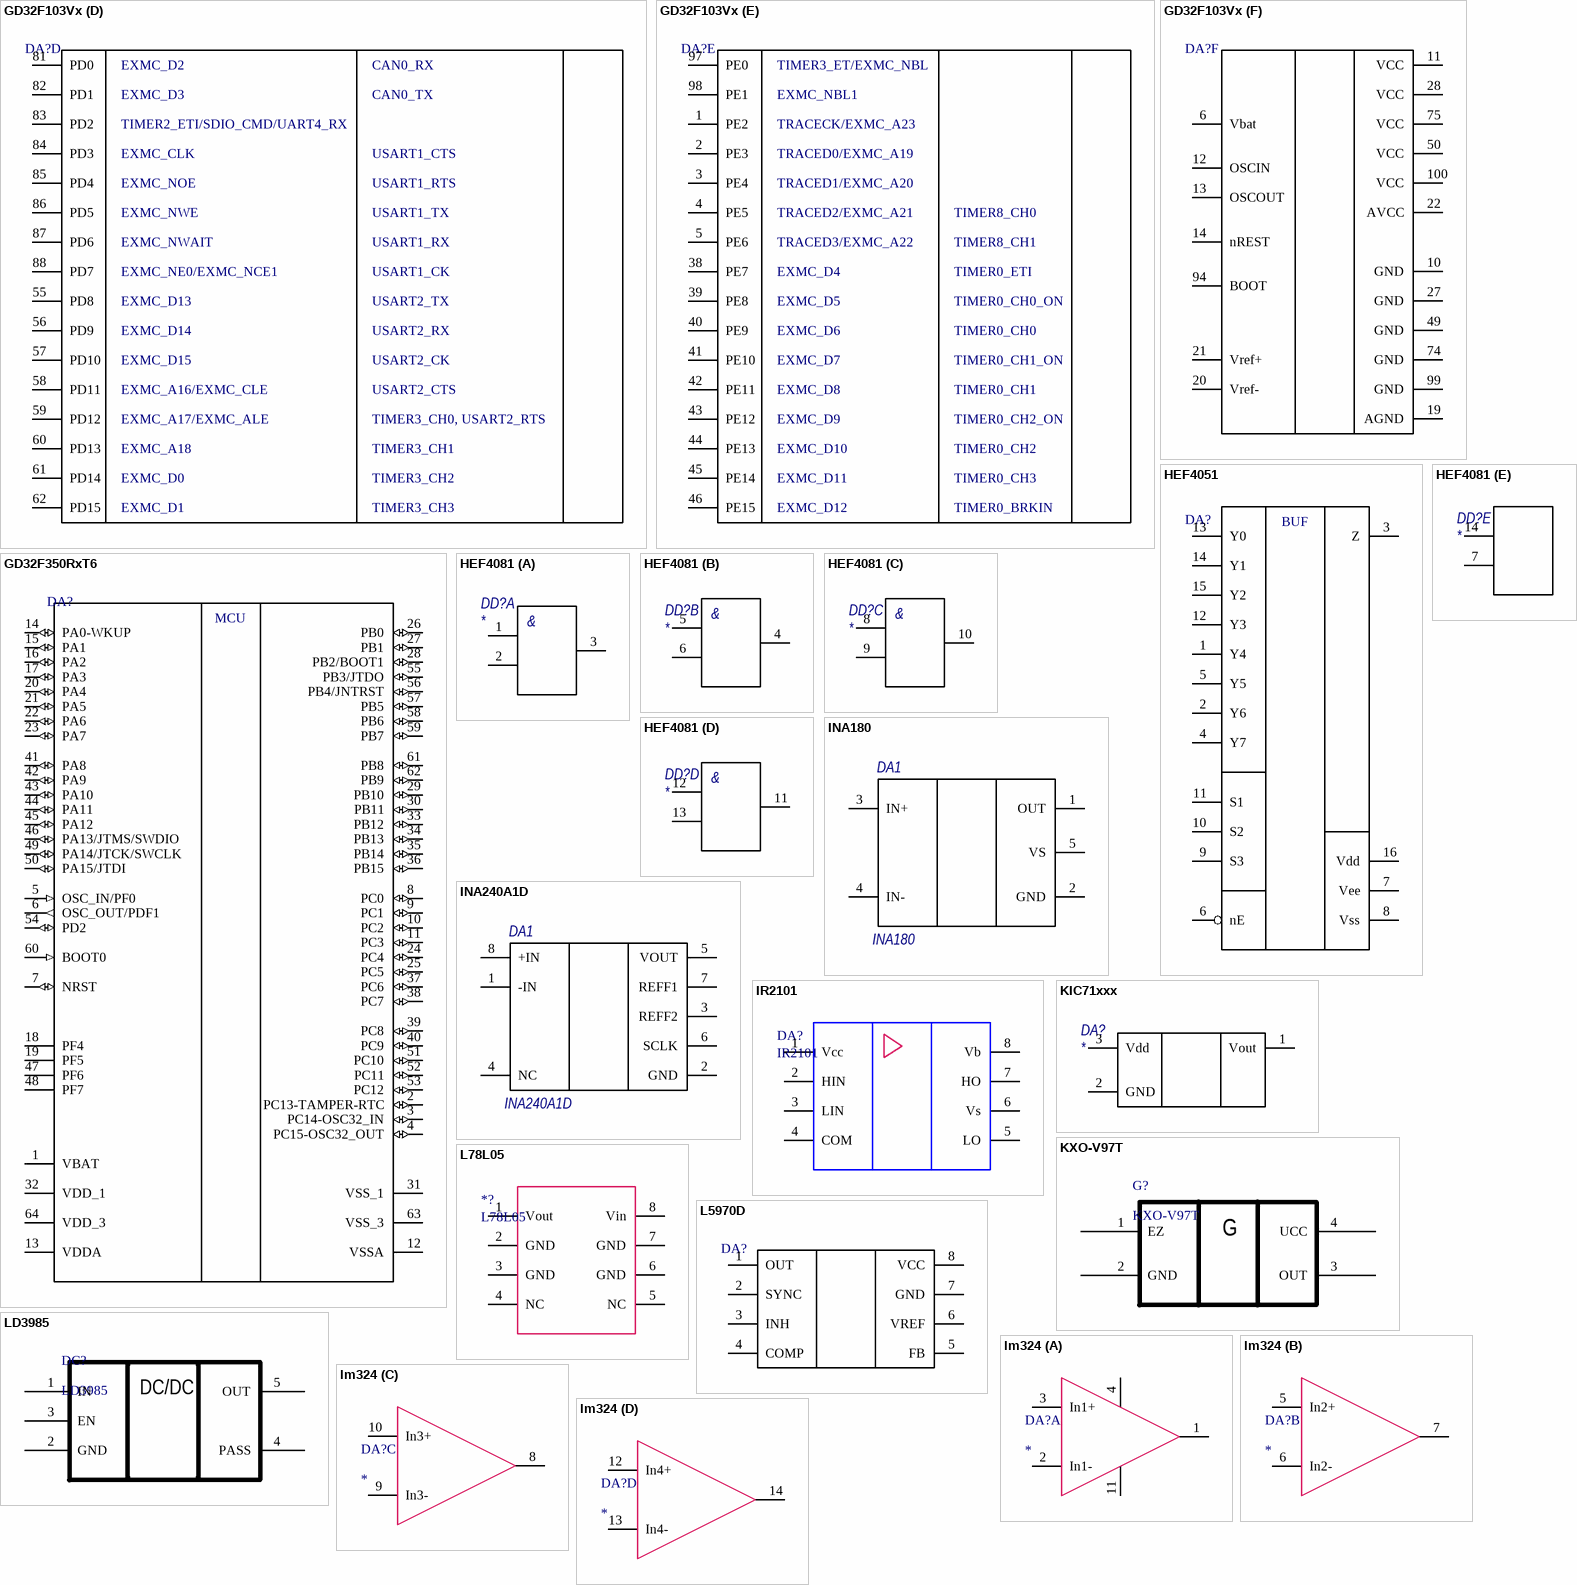
[diagram p6: symbols GD32F103Vx to lm324]

## GD32F103Vx
designator DA?  (value not drawn)
part A pins: 24 PA1, 25 PA2, 26 PA3, 29 PA4, 30 PA5, 31 PA6, 32 PA7, 67 PA8, 68 PA9, 69 PA10, 70 PA11, 71 PA12, 72 PA13, 73 PA14, 74 PA15
part B pins: 35 PB0, 36 PB1, 37 PB2, 47 PB10, 48 PB11, 49 PB12, 50 PB13, 51 PB14, 52 PB15, 89 JTDO, 90 JTDO, 91 PB5, 92 PB6, 93 PB7, 95 PB8, 96 PB9
part C pins: 7 PC13, 8 PC14, 9 PC15, 15 PC0, 16 PC1, 17 PC2, 18 PC3, 33 PC4, 36 PC5, 37 PC6, 38 PC7, 39 PC8, 40 PC9, 41 PC10, 42 PC11, 43 PC12
part D pins: 55 PD8, 56 PD9, 57 PD10, 58 PD11, 59 PD12, 60 PD13, 61 PD14, 62 PD15, 81 PD0, 82 PD1, 83 PD2, 84 PD3, 85 PD4, 86 PD5, 87 PD6, 88 PD7
part E pins: 1 PE2, 2 PE3, 3 PE4, 4 PE5, 5 PE6, 38 PE7, 39 PE8, 40 PE9, 41 PE10, 42 PE11, 43 PE12, 44 PE13, 45 PE14, 46 PE15, 97 PE0, 98 PE1
part F pins: 6 Vbat, 10 GND, 11 VCC, 12 OSCIN, 13 OSCOUT, 14 nREST, 19 AGND, 20 Vref-, 21 Vref+, 22 AVCC, 27 GND, 28 VCC, 49 GND, 50 VCC, 74 GND, 75 VCC, 94 BOOT, 99 GND, 100 VCC
part A text: USART1_RTS/ADC012_IN1/TIMER1_CH1/TIMER4_CH1; USART1_TX/ADC012_IN2/TIMER1_CH2/TIMER4_CH2/TIMER8_CH0; USART1_RX/ADC012_IN3/TIMER1_CH3/TIMER4_CH3/TIMER8_CH1; SPI0_NSS/USART1_CK/ADC01_IN4/DAC_OUT0; SPI2_NSS/I2S2_WS; SPI0_SCK/ADC01_IN5/DAC_OUT1; SPI0_MISO/ADC01_IN6/TIMER2_CH0/TIMER7_BRKIN/TIMER12_CH0; TIMER0_BRKIN; SPI0_MOSI/ADC01_IN7/TIMER2_CH1/TIMER7_CH0_ON/TIMER13_CH0; TIMER0_CH0_ON; USART0_CK/TIMER0_CH0/CK_OUT0; USART0_TX/TIMER0_CH1; USART0_RX/TIMER0_CH2; USART0_CTS/CAN0_RX/USBDM/TIMER0_CH3; USART0_RTS/CAN0_TX/TIMER0_ETI/USBDP; JTMS/SWDIO; JTCK, SWCLK; USART2_TX/SPI2_SCK/I2S2_CK
part B text: ADC01_IN8/TIMER2_CH2/TIMER7_CH1_ON; TIMER0_CH1_ON; ADC01_IN9/TIMER2_CH3/TIMER7_CH2_ON; TIMER0_CH2_ON; BOOT1; SPI2_SCK/I2S2_CK; PB3/TRACESWO/TIMER1_CH1/SPI0_SCK; SPI2_MISO; TIMER2_CH0/PB4/SPI0_MISO; I2C0_SMBA/SPI2_MOS/I2S2_SD; TIMER2_CH1/SPI0_MOSI; I2C0_SCL/TIMER3_CH0; USART0_TX; I2C0_SDA/TIMER3_CH1/EXMC_NADV; USART0_RX; TIMER3_CH2/SDIO_D4/TIMER9_CH0; I2C0_SCL/CAN0_RX; TIMER3_CH3/SDIO_D5/TIMER10_CH0; I2C0_SDA/CAN0_TX; I2C1_SCL/USART2_TX; TIMER1_CH2; I2C1_SDA, USART2_RX; TIMER1_CH3; SPI1_NSS, I2C1_SMBA/USART2_CK/TIMER0_BRKIN/I2S1_WS; SPI1_SCK/USART2_CTS/TIMER0_CH0_ON/I2S1_CK; SPI1_MISO/USART2_RTS/TIMER0_CH1_ON/TIMER11_CH0; SPI1_MOSI/TIMER0_CH2_ON/I2S1_SD/TIMER11_CH1
part C text: ADC012_IN10; ADC012_IN11; ADC012_IN12; ADC012_IN13; ADC012_IN14; ADC012_IN15; I2S1_MCK/TIMER7_CH0/SDIO_D6; TIMER2_CH0; I2S2_MCK/TIMER7_CH1/SDIO_D7; TIMER2_CH1; TIMER7_CH2/SDIO_D0; TIMER2_CH2; TIMER7_CH3/SDIO_D1; TIMER2_CH3; UART3_TX/SDIO_D2; USART2_TX/SPI2_SCK/I2S2_CK; UART3_RX/SDIO_D3; USART2_RX/SPI2_MISO; UART4_TX/SDIO_CK; USART2_CK/SPI2_MOSI/ I2S2_SD; TAMPER-RTC; OSC32IN; OSC32OUT
part D text: EXMC_D2; CAN0_RX; EXMC_D3; CAN0_TX; TIMER2_ETI/SDIO_CMD/UART4_RX; EXMC_CLK; USART1_CTS; EXMC_NOE; USART1_RTS; EXMC_NWE; USART1_TX; EXMC_NWAIT; USART1_RX; EXMC_NE0/EXMC_NCE1; USART1_CK; EXMC_D13; USART2_TX; EXMC_D14; USART2_RX; EXMC_D15; USART2_CK; EXMC_A16/EXMC_CLE; USART2_CTS; EXMC_A17/EXMC_ALE; TIMER3_CH0, USART2_RTS; EXMC_A18; TIMER3_CH1; EXMC_D0; TIMER3_CH2; EXMC_D1; TIMER3_CH3
part E text: TIMER3_ET/EXMC_NBL; EXMC_NBL1; TRACECK/EXMC_A23; TRACED0/EXMC_A19; TRACED1/EXMC_A20; TRACED2/EXMC_A21; TIMER8_CH0; TRACED3/EXMC_A22; TIMER8_CH1; EXMC_D4; TIMER0_ETI; EXMC_D5; TIMER0_CH0_ON; EXMC_D6; TIMER0_CH0; EXMC_D7; TIMER0_CH1_ON; EXMC_D8; TIMER0_CH1; EXMC_D9; TIMER0_CH2_ON; EXMC_D10; TIMER0_CH2; EXMC_D11; TIMER0_CH3; EXMC_D12; TIMER0_BRKIN

## GD32F350RxT6
designator DA?
pins: 1 VBAT (power), 2 PC13-TAMPER-RTC (io), 3 PC14-OSC32_IN (io), 4 PC15-OSC32_OUT (io), 5 OSC_IN/PF0 (in), 6 OSC_OUT/PDF1 (out), 7 NRST (io), 8 PC0 (io), 9 PC1 (io), 10 PC2 (io), 11 PC3 (io), 12 VSSA (power), 13 VDDA (power), 14 PA0-WKUP (io), 15 PA1 (io), 16 PA2 (io), 17 PA3 (io), 18 PF4 (power), 19 PF5 (power), 20 PA4 (io), 21 PA5 (io), 22 PA6 (io), 23 PA7 (io), 24 PC4 (io), 25 PC5 (io), 26 PB0 (io), 27 PB1 (io), 28 PB2/BOOT1 (io), 29 PB10 (io), 30 PB11 (io), 31 VSS_1 (power), 32 VDD_1 (power), 33 PB12 (io), 34 PB13 (io), 35 PB14 (io), 36 PB15 (io), 37 PC6 (io), 38 PC7 (io), 39 PC8 (io), 40 PC9 (io), 41 PA8 (io), 42 PA9 (io), 43 PA10 (io), 44 PA11 (io), 45 PA12 (io), 46 PA13/JTMS/SWDIO (io), 47 PF6 (power), 48 PF7 (power), 49 PA14/JTCK/SWCLK (io), 50 PA15/JTDI (io), 51 PC10 (io), 52 PC11 (io), 53 PC12 (io), 54 PD2 (io), 55 PB3/JTDO (io), 56 PB4/JNTRST (io), 57 PB5 (io), 58 PB6 (io), 59 PB7 (io), 60 BOOT0 (in), 61 PB8 (io), 62 PB9 (io), 63 VSS_3 (power), 64 VDD_3 (power)
text: MCU

## HEF4051
designator DA?, comment HEF4051BT,653NexperiaSO-16  (value not drawn)
Rem: *; Package: SO-16; Value: *; Tolerance: *; Power/Voltage: *; TKE: *; ManufacturerPartNumber: HEF4051BT,653; Manufacturer: Nexperia; Quantity: *; Примечание: *
footprint SO-16 (SOIC, 16-Leads, Body 9,90x3,90mm, Pitch 1,27mm, IPC Medium Density)
pins: 1 Y4, 2 Y6, 3 Z, 4 Y7, 5 Y5, 6 nE, 7 Vee, 8 Vss, 9 S3, 10 S2, 11 S1, 12 Y3, 13 Y0, 14 Y1, 15 Y2, 16 Vdd
text: BUF

## HEF4081
designator DD?
part A pins: 1 1A, 2 1B, 3 1Y
part B pins: 4 2Y, 5 2A, 6 2B
part C pins: 8 3A, 9 3B, 10 3Y
part D pins: 11 4Y, 12 4A, 13 4B
part E pins: 7 GND, 14 Vdd
part A text: &
part B text: &
part C text: &
part D text: &

## INA180
designator DA1
Manufacturer: "Texas Instruments"; ManufacturerPartNumber: INA240A1D; Part Number: Микросхема INA240A1D "Texas Instruments" SO-8; Package: SO-8; ComponentType: Микросхема
footprint SO-8
pins: 1 OUT, 2 GND, 3 IN+, 4 IN-, 5 VS

## INA240A1D
designator DA1
Manufacturer: "Texas Instruments"; Part Number: Микросхема INA240A1D "Texas Instruments" SO-8; ManufacturerPartNumber: INA240A1D; Package: SO-8; ComponentType: Микросхема
footprint SO-8
pins: 1 -IN, 2 GND, 3 REFF2, 4 NC, 5 VOUT, 6 SCLK, 7 REFF1, 8 +IN

## IR2101
designator DA?
footprint SOIC-8
pins: 1 Vcc, 2 HIN, 3 LIN, 4 COM, 5 LO, 6 Vs, 7 HO, 8 Vb

## KIC71xxx
designator DA?
pins: 1 Vout, 2 GND, 3 Vdd

## KXO-V97T
designator G?
footprint KXO-V97T
pins: 1 EZ, 2 GND, 3 OUT, 4 UCC
text: G

## L78L05
designator *?
footprint SO-8
pins: 1 Vout, 2 GND, 3 GND, 4 NC, 5 NC, 6 GND, 7 GND, 8 Vin

## L5970D
designator DA?  (value not drawn)
pins: 1 OUT, 2 SYNC, 3 INH, 4 COMP, 5 FB, 6 VREF, 7 GND, 8 VCC

## LD3985
designator DC?
footprint SOT23-5 (SOT23, 5-Leads, Body 3,0x2,6mm (max), Pitch 0,95mm, IPC Medium Density)
pins: 1 IN, 2 GND, 3 EN, 4 PASS, 5 OUT
text: DC/DC

## lm324
designator DA?
part A pins: 1 Out1, 2 In1-, 3 In1+, 4 VCC, 11 GND
part B pins: 5 In2+, 6 In2-, 7 Out2
part C pins: 8 Out3, 9 In3-, 10 In3+
part D pins: 12 In4+, 13 In4-, 14 Out4

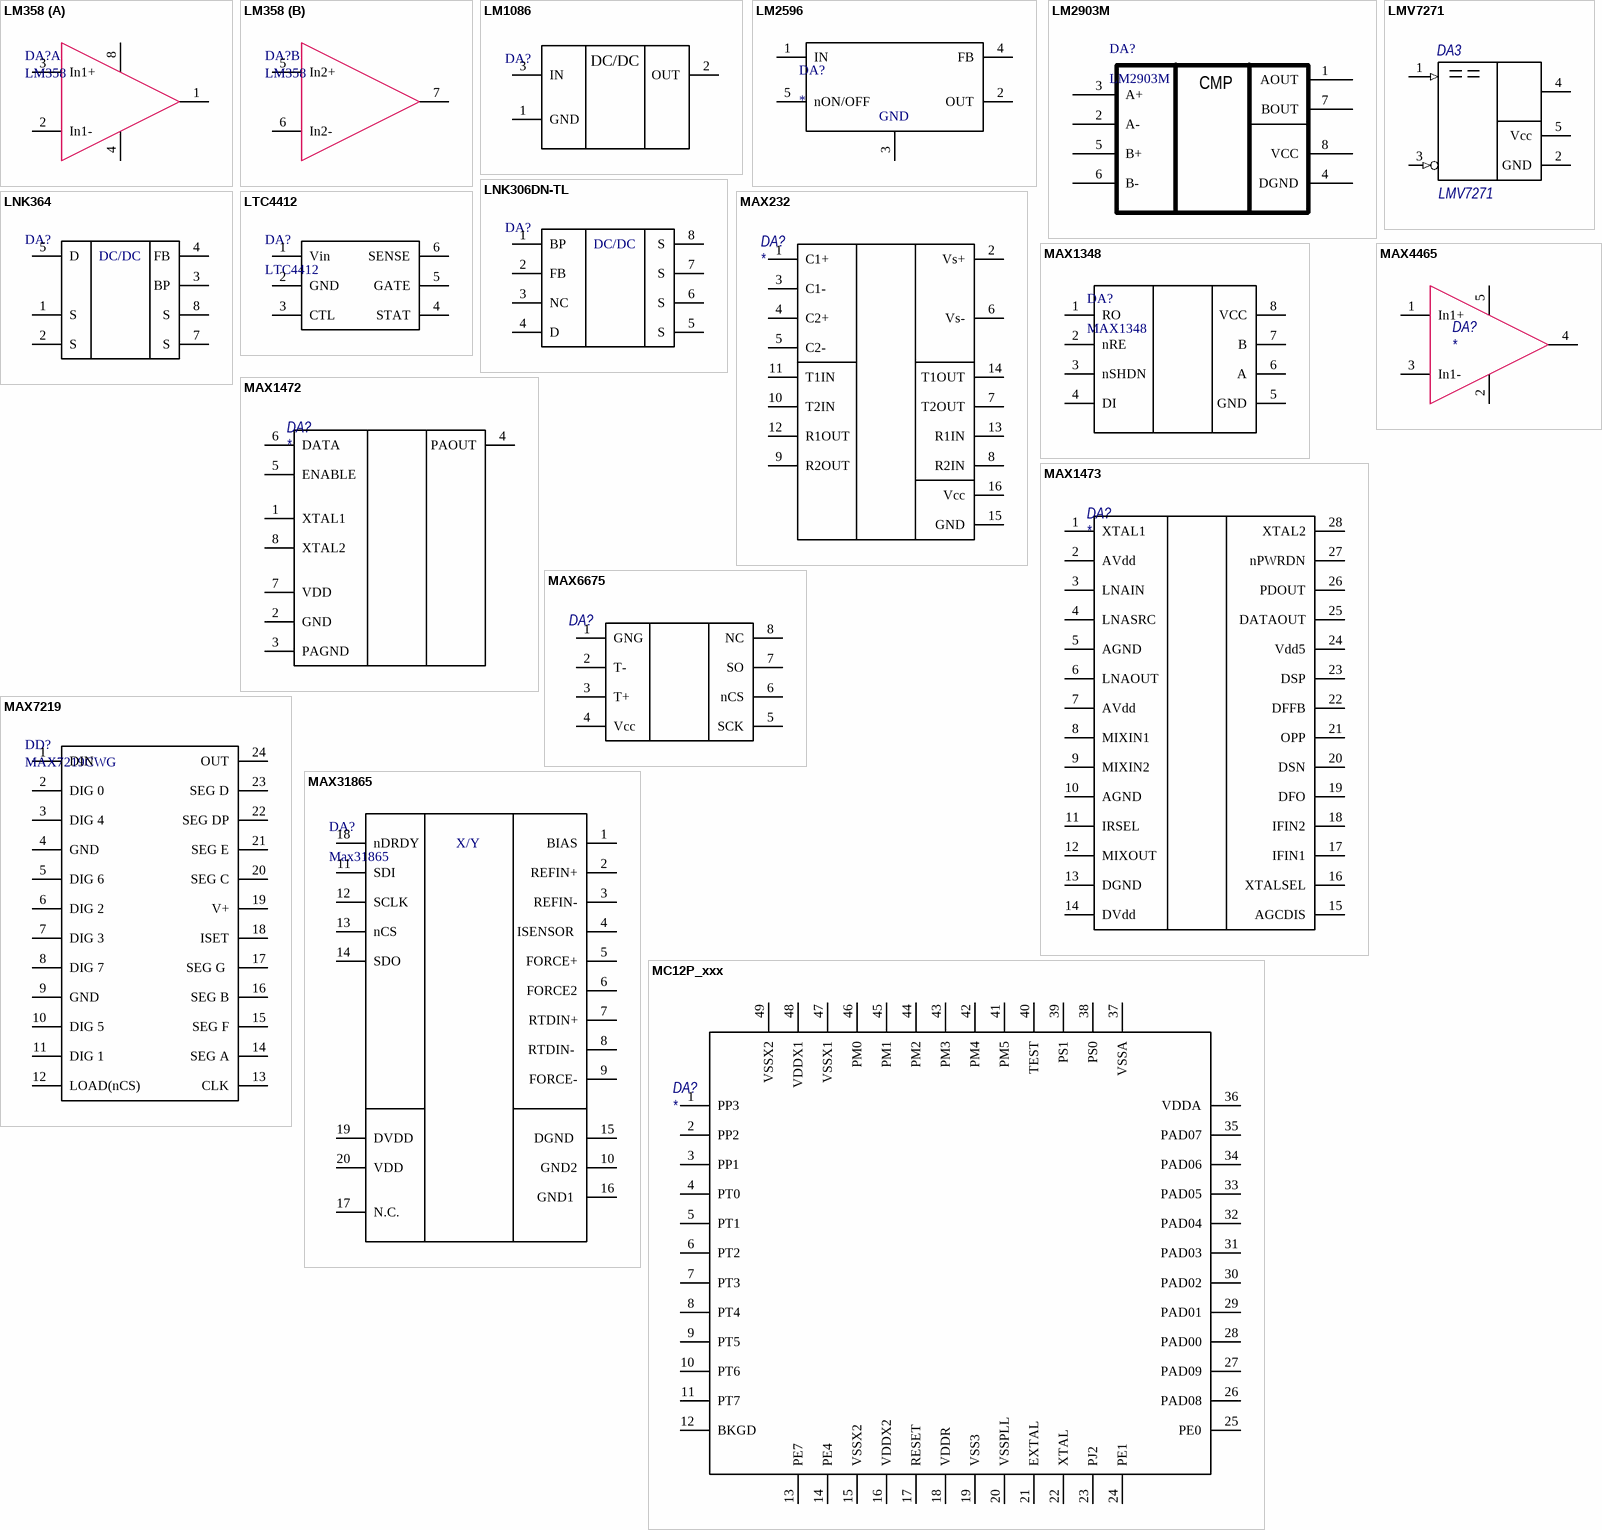
[diagram p7: symbols LM358 to MC12P_xxx]

## LM358
designator DA?
footprint SO-8
part A pins: 1 Out1, 2 In1-, 3 In1+, 4 GND, 8 VCC
part B pins: 5 In2+, 6 In2-, 7 Out2

## LM1086
designator DA?
Manufacturer: Texas Instruments
footprint TO-263-3
pins: 1 GND, 2 OUT, 3 IN
text: DC/DC

## LM2596
designator DA?
footprint DPAK228P1455X238-6N (D2-PAK, 6-Pads, Body 7,80x8,63mm (max), IPC Medium Density)
pins: 1 IN, 2 OUT, 3 GND, 4 FB, 5 nON/OFF

## LM2903M
designator DA?
footprint SOIC-8
pins: 1 AOUT, 2 A-, 3 A+, 4 DGND, 5 B+, 6 B-, 7 BOUT, 8 VCC
text: CMP

## LMV7271
designator DA3
Part Number: Микросхема LMV7271 "Texas Instruments" SOT23-5; Manufacturer: "Texas Instruments"; ManufacturerPartNumber: LMV7271; Package: SOT23-5; ComponentType: Микросхема
footprint SOT23-5
pins: 1 (in), 2 GND, 3 (in), 4, 5 Vcc

## LNK306DN-TL
designator DA?  (value not drawn)
pins: 1 BP, 2 FB, 3 NC, 4 D, 5 S, 6 S, 7 S, 8 S
text: DC/DC

## LNK364
designator DA?  (value not drawn)
pins: 1 S, 2 S, 3 BP, 4 FB, 5 D, 7 S, 8 S
text: DC/DC

## LTC4412
designator DA?
footprint SOT23-6 (SOT23, 6-Leads, Body 2,90x2,45mm, Pitch 0,95mm, IPC Medium Density)
pins: 1 Vin, 2 GND, 3 CTL, 4 STAT, 5 GATE, 6 SENSE

## MAX232
designator DA?
MAX232
pins: 1 C1+, 2 Vs+, 3 C1-, 4 C2+, 5 C2-, 6 Vs-, 7 T2OUT, 8 R2IN, 9 R2OUT, 10 T2IN, 11 T1IN, 12 R1OUT, 13 R1IN, 14 T1OUT, 15 GND, 16 Vcc

## MAX1348
designator DA?
ADM485
footprint SO-8
pins: 1 RO, 2 nRE, 3 nSHDN, 4 DI, 5 GND, 6 A, 7 B, 8 VCC

## MAX1472
designator DA?
pins: 1 XTAL1, 2 GND, 3 PAGND, 4 PAOUT, 5 ENABLE, 6 DATA, 7 VDD, 8 XTAL2

## MAX1473
designator DA?
pins: 1 XTAL1, 2 AVdd, 3 LNAIN, 4 LNASRC, 5 AGND, 6 LNAOUT, 7 AVdd, 8 MIXIN1, 9 MIXIN2, 10 AGND, 11 IRSEL, 12 MIXOUT, 13 DGND, 14 DVdd, 15 AGCDIS, 16 XTALSEL, 17 IFIN1, 18 IFIN2, 19 DFO, 20 DSN, 21 OPP, 22 DFFB, 23 DSP, 24 Vdd5, 25 DATAOUT, 26 PDOUT, 27 nPWRDN, 28 XTAL2

## MAX4465
designator DA?
pins: 1 In1+, 2 GND, 3 In1-, 4 Out, 5 VCC

## MAX6675
designator DA?  (value not drawn)
pins: 1 GNG, 2 T-, 3 T+, 4 Vcc, 5 SCK, 6 nCS, 7 SO, 8 NC

## MAX7219
designator DD?, comment MAX7219CWG
MAX7219; PART: MAX7219CWG
footprint Model Name (Footprint not found)
footprint SOIC-24W
pins: 1 DIN, 2 DIG 0, 3 DIG 4, 4 GND, 5 DIG 6, 6 DIG 2, 7 DIG 3, 8 DIG 7, 9 GND, 10 DIG 5, 11 DIG 1, 12 LOAD(nCS), 13 CLK, 14 SEG A, 15 SEG F, 16 SEG B, 17 SEG G , 18 ISET, 19 V+, 20 SEG C, 21 SEG E, 22 SEG DP, 23 SEG D, 24 OUT

## MAX31865
designator DA?, comment Max31865
Value: Max31865
footprint TQFN_5x5_20pin (QFN, 20-Leads, Body 5,00x5,00mm, Pitch 0,50mm, Thermal Pad 4,00x2,20mm, IPC Medium Density)
footprint TQFN_5x5_20pin_ver2 (QFN, 20-Leads, Body 5,00x5,00mm, Pitch 0,50mm, Thermal Pad 4,00x2,20mm, IPC Medium Density)
pins: 1 BIAS, 2 REFIN+, 3 REFIN-, 4 ISENSOR , 5 FORCE+, 6 FORCE2, 7 RTDIN+, 8 RTDIN- , 9 FORCE-, 10 GND2, 11 SDI , 12 SCLK , 13 nCS , 14 SDO , 15 DGND , 16 GND1 , 17 N.C. , 18 nDRDY, 19 DVDD , 20 VDD , 21 EP hidden to GND
text: X/Y

## MC12P_xxx
designator DA?
pins: 1 PP3, 2 PP2, 3 PP1, 4 PT0, 5 PT1, 6 PT2, 7 PT3, 8 PT4, 9 PT5, 10 PT6, 11 PT7, 12 BKGD, 13 PE7, 14 PE4, 15 VSSX2, 16 VDDX2, 17 RESET, 18 VDDR, 19 VSS3, 20 VSSPLL, 21 EXTAL, 22 XTAL, 23 PJ2, 24 PE1, 25 PE0, 26 PAD08, 27 PAD09, 28 PAD00, 29 PAD01, 30 PAD02, 31 PAD03, 32 PAD04, 33 PAD05, 34 PAD06, 35 PAD07, 36 VDDA, 37 VSSA, 38 PS0, 39 PS1, 40 TEST, 41 PM5, 42 PM4, 43 PM3, 44 PM2, 45 PM1, 46 PM0, 47 VSSX1, 48 VDDX1, 49 VSSX2

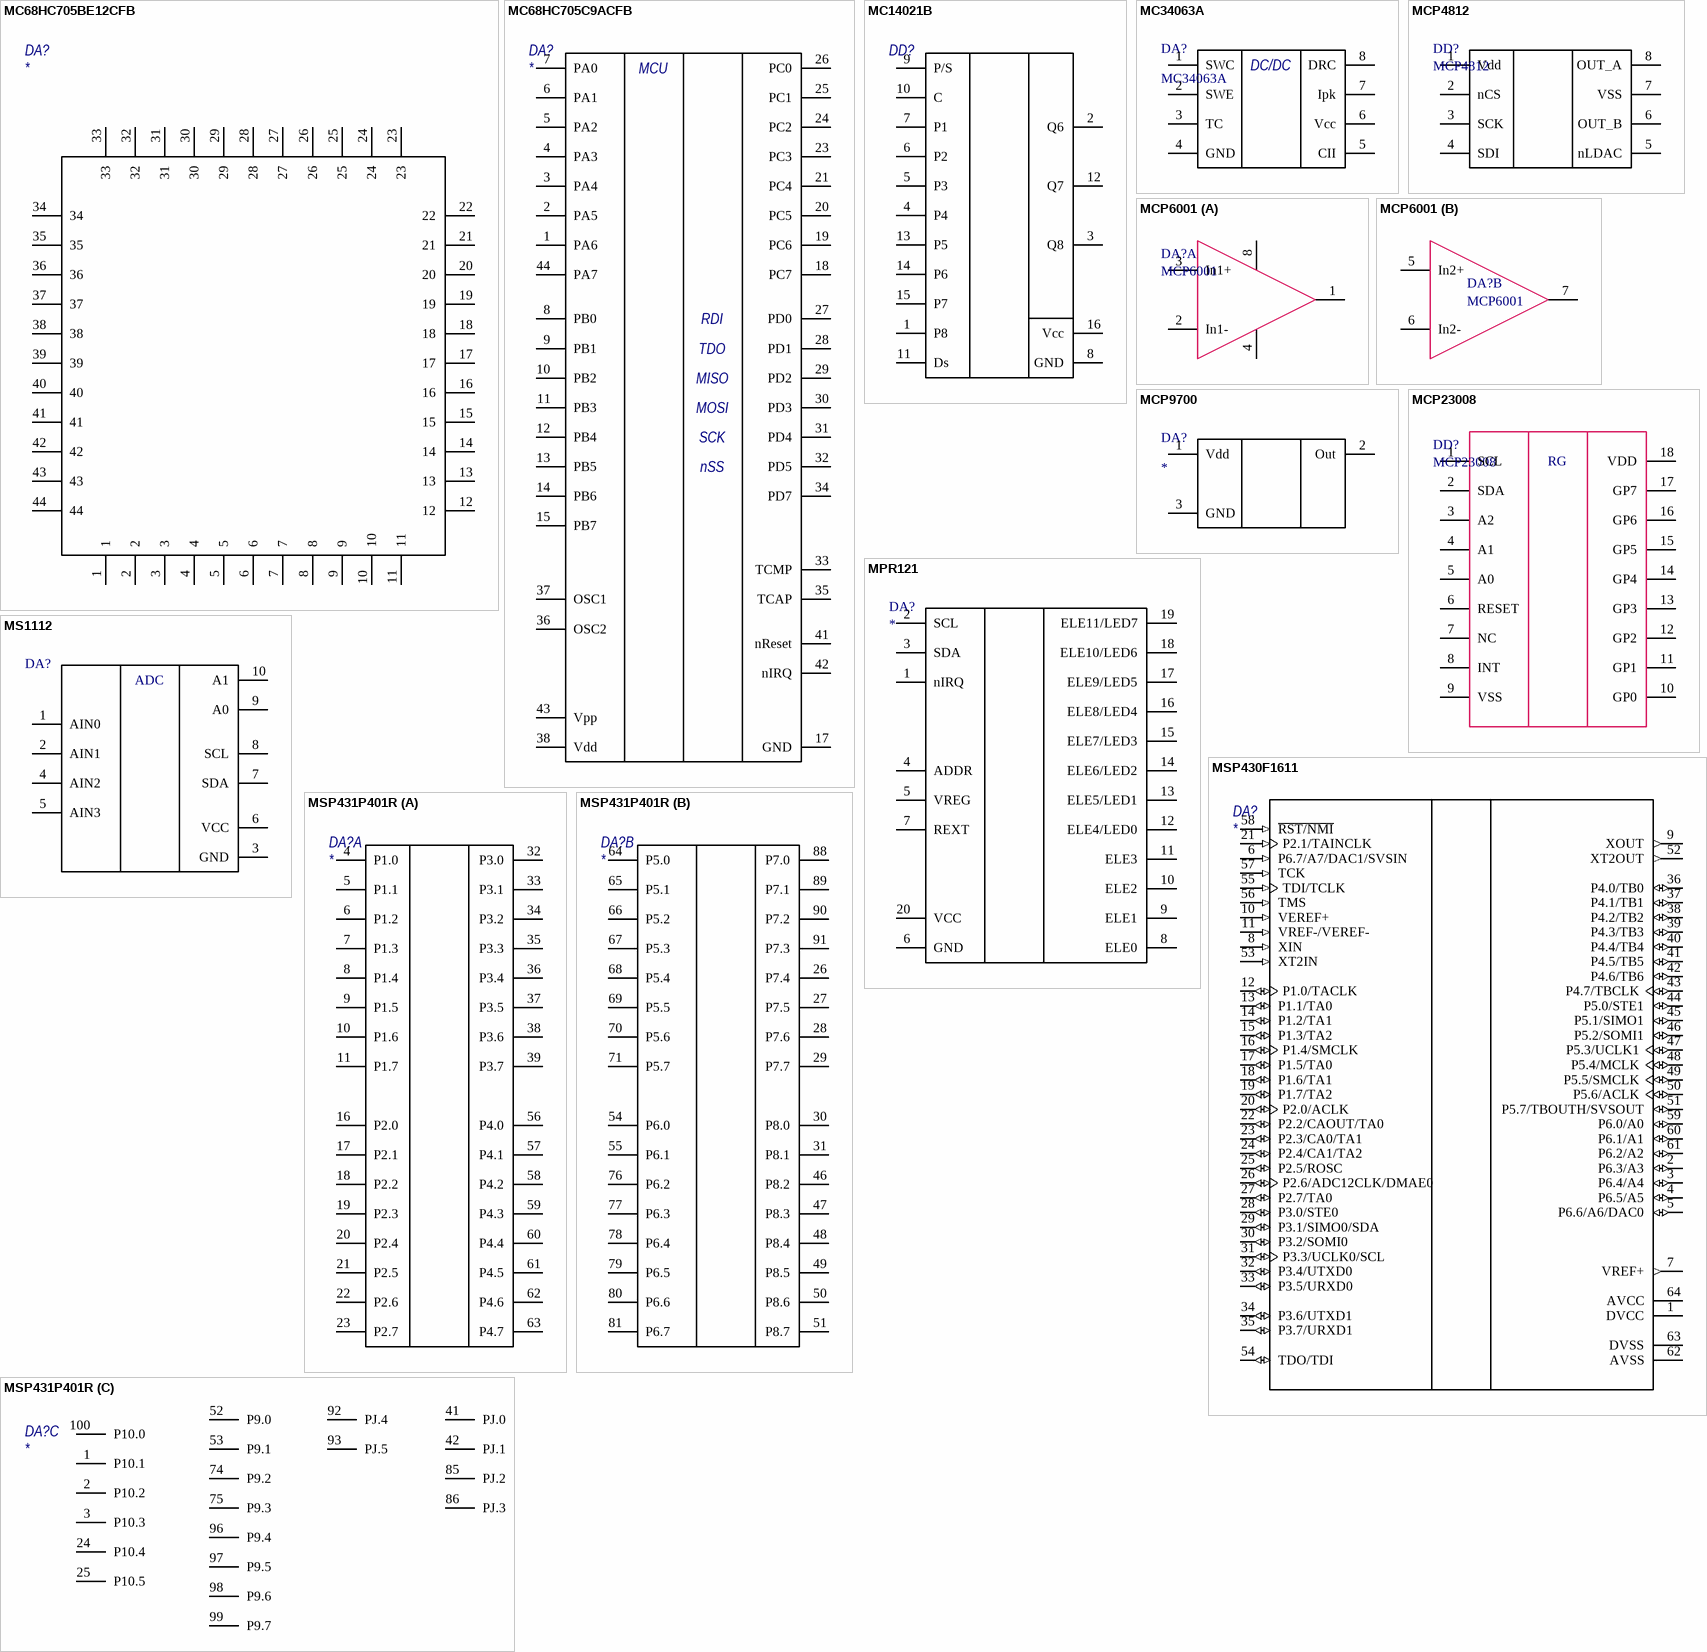
[diagram p8: symbols MC68HC705BE12CFB to MSP431P401R]

## MC68HC705BE12CFB
designator DA?
pins: 1, 2, 3, 4, 5, 6, 7, 8, 9, 10, 11, 12, 13, 14, 15, 16, 17, 18, 19, 20, 21, 22, 23, 24, 25, 26, 27, 28, 29, 30, 31, 32, 33, 34, 35, 36, 37, 38, 39, 40, 41, 42, 43, 44

## MC68HC705C9ACFB
designator DA?
pins: 1 PA6, 2 PA5, 3 PA4, 4 PA3, 5 PA2, 6 PA1, 7 PA0, 8 PB0, 9 PB1, 10 PB2, 11 PB3, 12 PB4, 13 PB5, 14 PB6, 15 PB7, 17 GND, 18 PC7, 19 PC6, 20 PC5, 21 PC4, 23 PC3, 24 PC2, 25 PC1, 26 PC0, 27 PD0, 28 PD1, 29 PD2, 30 PD3, 31 PD4, 32 PD5, 33 TCMP, 34 PD7, 35 TCAP, 36 OSC2, 37 OSC1, 38 Vdd, 41 nReset, 42 nIRQ, 43 Vpp, 44 PA7
text: MCU; RDI; TDO; MISO; MOSI; SCK; nSS

## MC14021B
designator DD?  (value not drawn)
MC14021B
pins: 1 P8, 2 Q6, 3 Q8, 4 P4, 5 P3, 6 P2, 7 P1, 8 GND, 9 P/S, 10 C, 11 Ds, 12 Q7, 13 P5, 14 P6, 15 P7, 16 Vcc

## MC34063A
designator DA?
footprint SO-8
pins: 1 SWC, 2 SWE, 3 TC, 4 GND, 5 CII, 6 Vcc, 7 Ipk, 8 DRC
text: DC/DC

## MCP4812
designator DD?
pins: 1 Vdd, 2 nCS, 3 SCK, 4 SDI, 5 nLDAC, 6 OUT_B, 7 VSS, 8 OUT_A

## MCP6001
designator DA?
footprint SO-8
part A pins: 1 Out1, 2 In1-, 3 In1+, 4 GND, 8 VCC
part B pins: 5 In2+, 6 In2-, 7 Out2

## MCP9700
designator DA?
pins: 1 Vdd, 2 Out, 3 GND

## MCP23008
designator DD?
footprint SOIC18
pins: 1 SCL, 2 SDA, 3 A2, 4 A1, 5 A0, 6 RESET, 7 NC, 8 INT, 9 VSS, 10 GP0, 11 GP1, 12 GP2, 13 GP3, 14 GP4, 15 GP5, 16 GP6, 17 GP7, 18 VDD
text: RG

## MPR121
designator DA?
pins: 1 nIRQ, 2 SCL, 3 SDA, 4 ADDR, 5 VREG, 6 GND, 7 REXT, 8 ELE0, 9 ELE1, 10 ELE2, 11 ELE3, 12 ELE4/LED0, 13 ELE5/LED1, 14 ELE6/LED2, 15 ELE7/LED3, 16 ELE8/LED4, 17 ELE9/LED5, 18 ELE10/LED6, 19 ELE11/LED7, 20 VCC

## MS1112
designator DA?  (value not drawn)
pins: 1 AIN0, 2 AIN1, 3 GND, 4 AIN2, 5 AIN3, 6 VCC, 7 SDA, 8 SCL, 9 A0, 10 A1
text: ADC

## MSP430F1611
designator DA?
pins: 1 DVCC (power), 2 P6.3/A3 (io), 3 P6.4/A4 (io), 4 P6.5/A5 (io), 5 P6.6/A6/DAC0 (io), 6 P6.7/A7/DAC1/SVSIN (in), 7 VREF+ (out), 8 XIN (in), 9 XOUT (out), 10 VEREF+ (in), 11 VREF-/VEREF- (in), 12 P1.0/TACLK (io), 13 P1.1/TA0 (io), 14 P1.2/TA1 (io), 15 P1.3/TA2 (io), 16 P1.4/SMCLK (io), 17 P1.5/TA0 (io), 18 P1.6/TA1 (io), 19 P1.7/TA2 (io), 20 P2.0/ACLK (io), 21 P2.1/TAINCLK (in), 22 P2.2/CAOUT/TA0 (io), 23 P2.3/CA0/TA1 (io), 24 P2.4/CA1/TA2 (io), 25 P2.5/ROSC (io), 26 P2.6/ADC12CLK/DMAE0 (io), 27 P2.7/TA0 (io), 28 P3.0/STE0 (io), 29 P3.1/SIMO0/SDA (io), 30 P3.2/SOMI0 (io), 31 P3.3/UCLK0/SCL (io), 32 P3.4/UTXD0 (io), 33 P3.5/URXD0 (io), 34 P3.6/UTXD1 (io), 35 P3.7/URXD1 (io), 36 P4.0/TB0 (io), 37 P4.1/TB1 (io), 38 P4.2/TB2 (io), 39 P4.3/TB3 (io), 40 P4.4/TB4 (io), 41 P4.5/TB5 (io), 42 P4.6/TB6 (io), 43 P4.7/TBCLK (io), 44 P5.0/STE1 (io), 45 P5.1/SIMO1 (io), 46 P5.2/SOMI1 (io), 47 P5.3/UCLK1 (io), 48 P5.4/MCLK (io), 49 P5.5/SMCLK (io), 50 P5.6/ACLK (io), 51 P5.7/TBOUTH/SVSOUT (io), 52 XT2OUT (out), 53 XT2IN (in), 54 TDO/TDI (io), 55 TDI/TCLK (in), 56 TMS (in), 57 TCK (in), 58 ~{RST/NMI} (in), 59 P6.0/A0 (io), 60 P6.1/A1 (io), 61 P6.2/A2 (io), 62 AVSS (power), 63 DVSS (power), 64 AVCC (power)

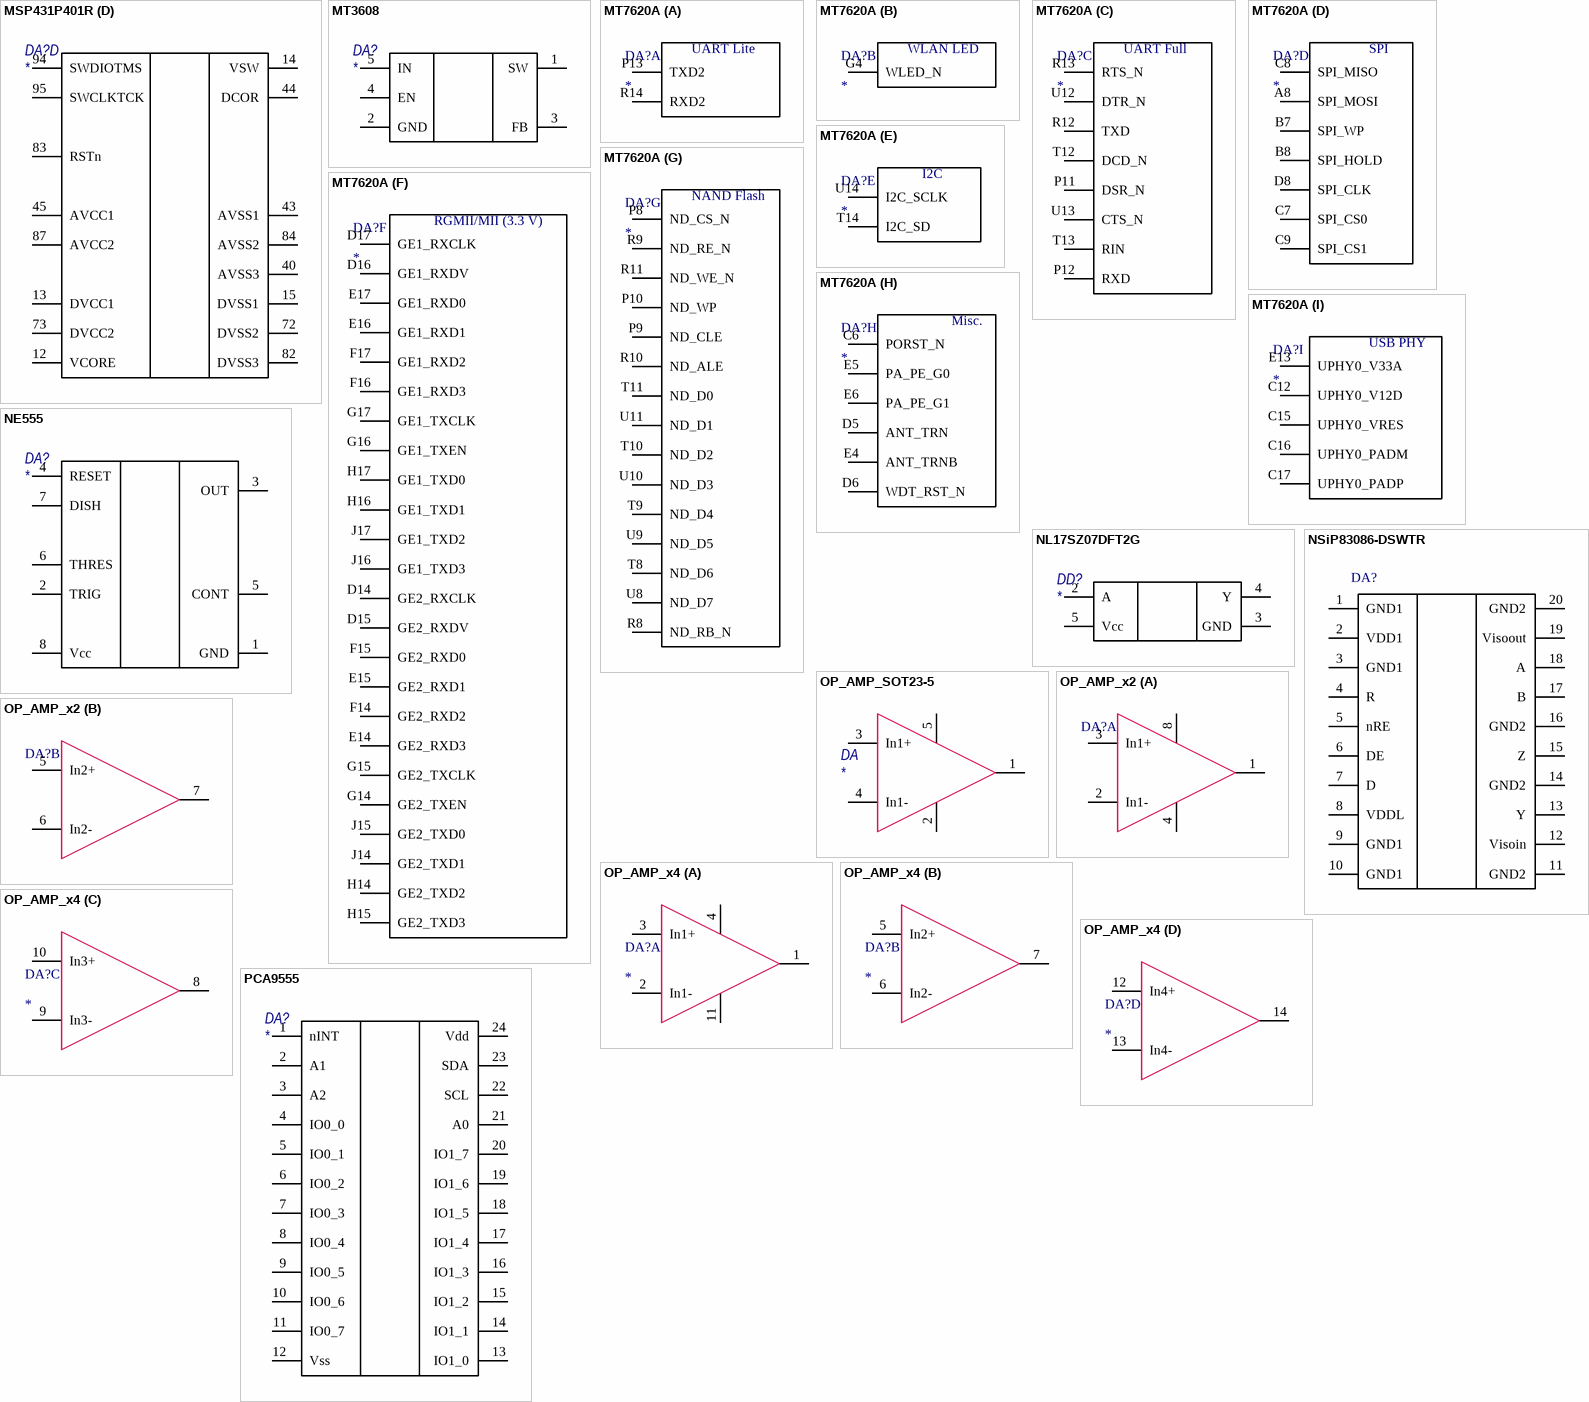
[diagram p9: symbols MSP431P401R to PCA9555]

## MSP431P401R
designator DA?
part A pins: 4 P1.0, 5 P1.1, 6 P1.2, 7 P1.3, 8 P1.4, 9 P1.5, 10 P1.6, 11 P1.7, 16 P2.0, 17 P2.1, 18 P2.2, 19 P2.3, 20 P2.4, 21 P2.5, 22 P2.6, 23 P2.7, 32 P3.0, 33 P3.1, 34 P3.2, 35 P3.3, 36 P3.4, 37 P3.5, 38 P3.6, 39 P3.7, 56 P4.0, 57 P4.1, 58 P4.2, 59 P4.3, 60 P4.4, 61 P4.5, 62 P4.6, 63 P4.7
part B pins: 26 P7.4, 27 P7.5, 28 P7.6, 29 P7.7, 30 P8.0, 31 P8.1, 46 P8.2, 47 P8.3, 48 P8.4, 49 P8.5, 50 P8.6, 51 P8.7, 54 P6.0, 55 P6.1, 64 P5.0, 65 P5.1, 66 P5.2, 67 P5.3, 68 P5.4, 69 P5.5, 70 P5.6, 71 P5.7, 76 P6.2, 77 P6.3, 78 P6.4, 79 P6.5, 80 P6.6, 81 P6.7, 88 P7.0, 89 P7.1, 90 P7.2, 91 P7.3
part C pins: 1 P10.1, 2 P10.2, 3 P10.3, 24 P10.4, 25 P10.5, 41 PJ.0, 42 PJ.1, 52 P9.0, 53 P9.1, 74 P9.2, 75 P9.3, 85 PJ.2, 86 PJ.3, 92 PJ.4, 93 PJ.5, 96 P9.4, 97 P9.5, 98 P9.6, 99 P9.7, 100 P10.0
part D pins: 12 VCORE, 13 DVCC1, 14 VSW, 15 DVSS1, 40 AVSS3, 43 AVSS1, 44 DCOR, 45 AVCC1, 72 DVSS2, 73 DVCC2, 82 DVSS3, 83 RSTn, 84 AVSS2, 87 AVCC2, 94 SWDIOTMS, 95 SWCLKTCK

## MT3608
designator DA?
pins: 1 SW, 2 GND, 3 FB, 4 EN, 5 IN

## MT7620A
designator DA?
MT7620A
part A pins: P13  TXD2 , R14  RXD2 
part B pins: G4 WLED_N  
part C pins: P11  DSR_N , P12  RXD , R12  TXD , R13  RTS_N, T12  DCD_N , T13  RIN , U12  DTR_N , U13  CTS_N 
part D pins: A8  SPI_MOSI , B7  SPI_WP , B8  SPI_HOLD , C7  SPI_CS0 , C8  SPI_MISO , C9  SPI_CS1, D8  SPI_CLK 
part E pins: T14  I2C_SD , U14  I2C_SCLK 
part F pins: D14  GE2_RXCLK , D15  GE2_RXDV, D16  GE1_RXDV , D17  GE1_RXCLK , E14  GE2_RXD3 , E15  GE2_RXD1 , E16  GE1_RXD1 , E17  GE1_RXD0 , F14  GE2_RXD2 , F15  GE2_RXD0 , F16  GE1_RXD3 , F17  GE1_RXD2 , G14  GE2_TXEN , G15  GE2_TXCLK , G16  GE1_TXEN , G17  GE1_TXCLK , H14  GE2_TXD2 , H15  GE2_TXD3 , H16  GE1_TXD1 , H17  GE1_TXD0 , J14  GE2_TXD1 , J15  GE2_TXD0 , J16  GE1_TXD3 , J17  GE1_TXD2 
part G pins: P8  ND_CS_N , P9  ND_CLE , P10  ND_WP , R8  ND_RB_N , R9  ND_RE_N , R10  ND_ALE , R11  ND_WE_N , T8  ND_D6 , T9  ND_D4 , T10  ND_D2 , T11  ND_D0 , U8  ND_D7 , U9  ND_D5 , U10  ND_D3 , U11  ND_D1 
part H pins: C6  PORST_N , D5  ANT_TRN , D6  WDT_RST_N , E4  ANT_TRNB , E5  PA_PE_G0 , E6  PA_PE_G1 
part I pins: C12  UPHY0_V12D , C15  UPHY0_VRES , C16  UPHY0_PADM , C17  UPHY0_PADP , E13  UPHY0_V33A 
part A text: UART Lite
part B text: WLAN LED
part C text: UART Full
part D text: SPI
part E text: I2C
part F text: RGMII/MII (3.3 V)
part G text: NAND Flash
part H text: Misc.
part I text: USB PHY

## NE555
designator DA?
pins: 1 GND, 2 TRIG, 3 OUT, 4 RESET, 5 CONT, 6 THRES, 7 DISH, 8 Vcc

## NL17SZ07DFT2G
designator DD?
pins: 2 A, 3 GND, 4 Y, 5 Vcc

## NSiP83086-DSWTR
designator DA?
pins: 1 GND1, 2 VDD1, 3 GND1, 4 R, 5 nRE, 6 DE, 7 D, 8 VDDL, 9 GND1, 10 GND1, 11 GND2, 12 Visoin, 13 Y, 14 GND2, 15 Z, 16 GND2, 17 B, 18 A, 19 Visoout, 20 GND2

## OP_AMP_SOT23-5
designator DA
pins: 1 Out1, 2 GND, 3 In1+, 4 In1-, 5 VCC

## OP_AMP_x2
designator DA?
OP_AMP_x2
part A pins: 1 Out1, 2 In1-, 3 In1+, 4 GND, 8 VCC
part B pins: 5 In2+, 6 In2-, 7 Out2

## OP_AMP_x4
designator DA?
part A pins: 1 Out1, 2 In1-, 3 In1+, 4 VCC, 11 GND
part B pins: 5 In2+, 6 In2-, 7 Out2
part C pins: 8 Out3, 9 In3-, 10 In3+
part D pins: 12 In4+, 13 In4-, 14 Out4

## PCA9555
designator DA?
pins: 1 nINT, 2 A1, 3 A2, 4 IO0_0, 5 IO0_1, 6 IO0_2, 7 IO0_3, 8 IO0_4, 9 IO0_5, 10 IO0_6, 11 IO0_7, 12 Vss, 13 IO1_0, 14 IO1_1, 15 IO1_2, 16 IO1_3, 17 IO1_4, 18 IO1_5, 19 IO1_6, 20 IO1_7, 21 A0, 22 SCL, 23 SDA, 24 Vdd

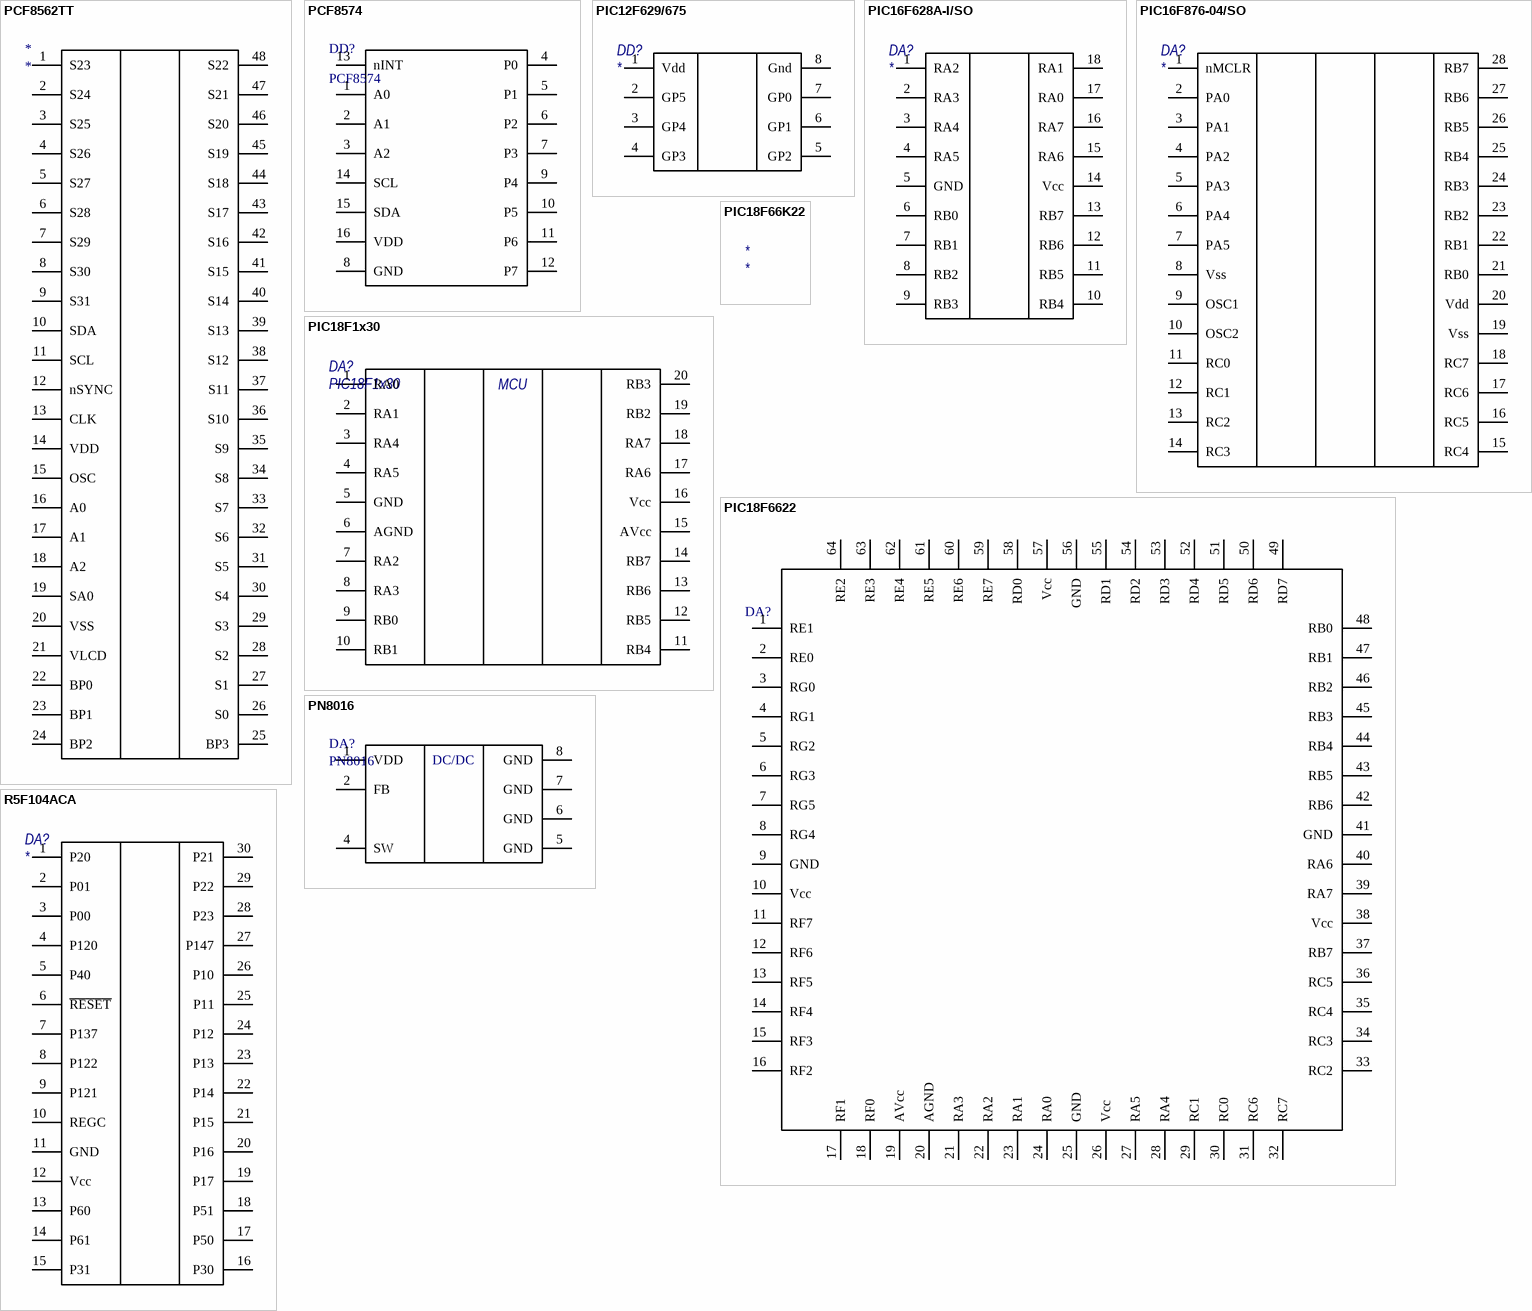
[diagram p10: symbols PCF8562TT to R5F104ACA]

## PCF8562TT
designator *
pins: 1 S23, 2 S24, 3 S25, 4 S26, 5 S27, 6 S28, 7 S29, 8 S30, 9 S31, 10 SDA, 11 SCL, 12 nSYNC, 13 CLK, 14 VDD, 15 OSC, 16 A0, 17 A1, 18 A2, 19 SA0, 20 VSS, 21 VLCD, 22 BP0, 23 BP1, 24 BP2, 25 BP3, 26 S0, 27 S1, 28 S2, 29 S3, 30 S4, 31 S5, 32 S6, 33 S7, 34 S8, 35 S9, 36 S10, 37 S11, 38 S12, 39 S13, 40 S14, 41 S15, 42 S16, 43 S17, 44 S18, 45 S19, 46 S20, 47 S21, 48 S22

## PCF8574
designator DD?
footprint SO-16W (SOP, 16-Leads, Body 10,30x7,50mm, Pitch 1,27mm, IPC Medium Density)
pins: 1 A0, 2 A1, 3 A2, 4 P0, 5 P1, 6 P2, 7 P3, 8 GND, 9 P4, 10 P5, 11 P6, 12 P7, 13 nINT, 14 SCL, 15 SDA, 16 VDD

## PIC12F629/675
designator DD?
PIC12F629/675
pins: 1 Vdd, 2 GP5, 3 GP4, 4 GP3, 5 GP2, 6 GP1, 7 GP0, 8 Gnd

## PIC16F628A-I/SO
designator DA?
pins: 1 RA2, 2 RA3, 3 RA4, 4 RA5, 5 GND, 6 RB0, 7 RB1, 8 RB2, 9 RB3, 10 RB4, 11 RB5, 12 RB6, 13 RB7, 14 Vcc, 15 RA6, 16 RA7, 17 RA0, 18 RA1

## PIC16F876-04/SO
designator DA?
pins: 1 nMCLR, 2 PA0, 3 PA1, 4 PA2, 5 PA3, 6 PA4, 7 PA5, 8 Vss, 9 OSC1, 10 OSC2, 11 RC0, 12 RC1, 13 RC2, 14 RC3, 15 RC4, 16 RC5, 17 RC6, 18 RC7, 19 Vss, 20 Vdd, 21 RB0, 22 RB1, 23 RB2, 24 RB3, 25 RB4, 26 RB5, 27 RB6, 28 RB7

## PIC18F1x30
designator DA?
pins: 1 RA0, 2 RA1, 3 RA4, 4 RA5, 5 GND, 6 AGND, 7 RA2, 8 RA3, 9 RB0, 10 RB1, 11 RB4, 12 RB5, 13 RB6, 14 RB7, 15 AVcc, 16 Vcc, 17 RA6, 18 RA7, 19 RB2, 20 RB3
text: MCU

## PIC18F66K22
designator *

## PIC18F6622
designator DA?  (value not drawn)
PIC18F6622
pins: 1 RE1, 2 RE0, 3 RG0, 4 RG1, 5 RG2, 6 RG3, 7 RG5, 8 RG4, 9 GND, 10 Vcc, 11 RF7, 12 RF6, 13 RF5, 14 RF4, 15 RF3, 16 RF2, 17 RF1, 18 RF0, 19 AVcc, 20 AGND, 21 RA3, 22 RA2, 23 RA1, 24 RA0, 25 GND, 26 Vcc, 27 RA5, 28 RA4, 29 RC1, 30 RC0, 31 RC6, 32 RC7, 33 RC2, 34 RC3, 35 RC4, 36 RC5, 37 RB7, 38 Vcc, 39 RA7, 40 RA6, 41 GND, 42 RB6, 43 RB5, 44 RB4, 45 RB3, 46 RB2, 47 RB1, 48 RB0, 49 RD7, 50 RD6, 51 RD5, 52 RD4, 53 RD3, 54 RD2, 55 RD1, 56 GND, 57 Vcc, 58 RD0, 59 RE7, 60 RE6, 61 RE5, 62 RE4, 63 RE3, 64 RE2

## PN8016
designator DA?
pins: 1 VDD, 2 FB, 4 SW, 5 GND, 6 GND, 7 GND, 8 GND
text: DC/DC

## R5F104ACA
designator DA?
pins: 1 P20, 2 P01, 3 P00, 4 P120, 5 P40, 6 ~{RESET}, 7 P137, 8 P122, 9 P121, 10 REGC, 11 GND, 12 Vcc, 13 P60, 14 P61, 15 P31, 16 P30, 17 P50, 18 P51, 19 P17, 20 P16, 21 P15, 22 P14, 23 P13, 24 P12, 25 P11, 26 P10, 27 P147, 28 P23, 29 P22, 30 P21

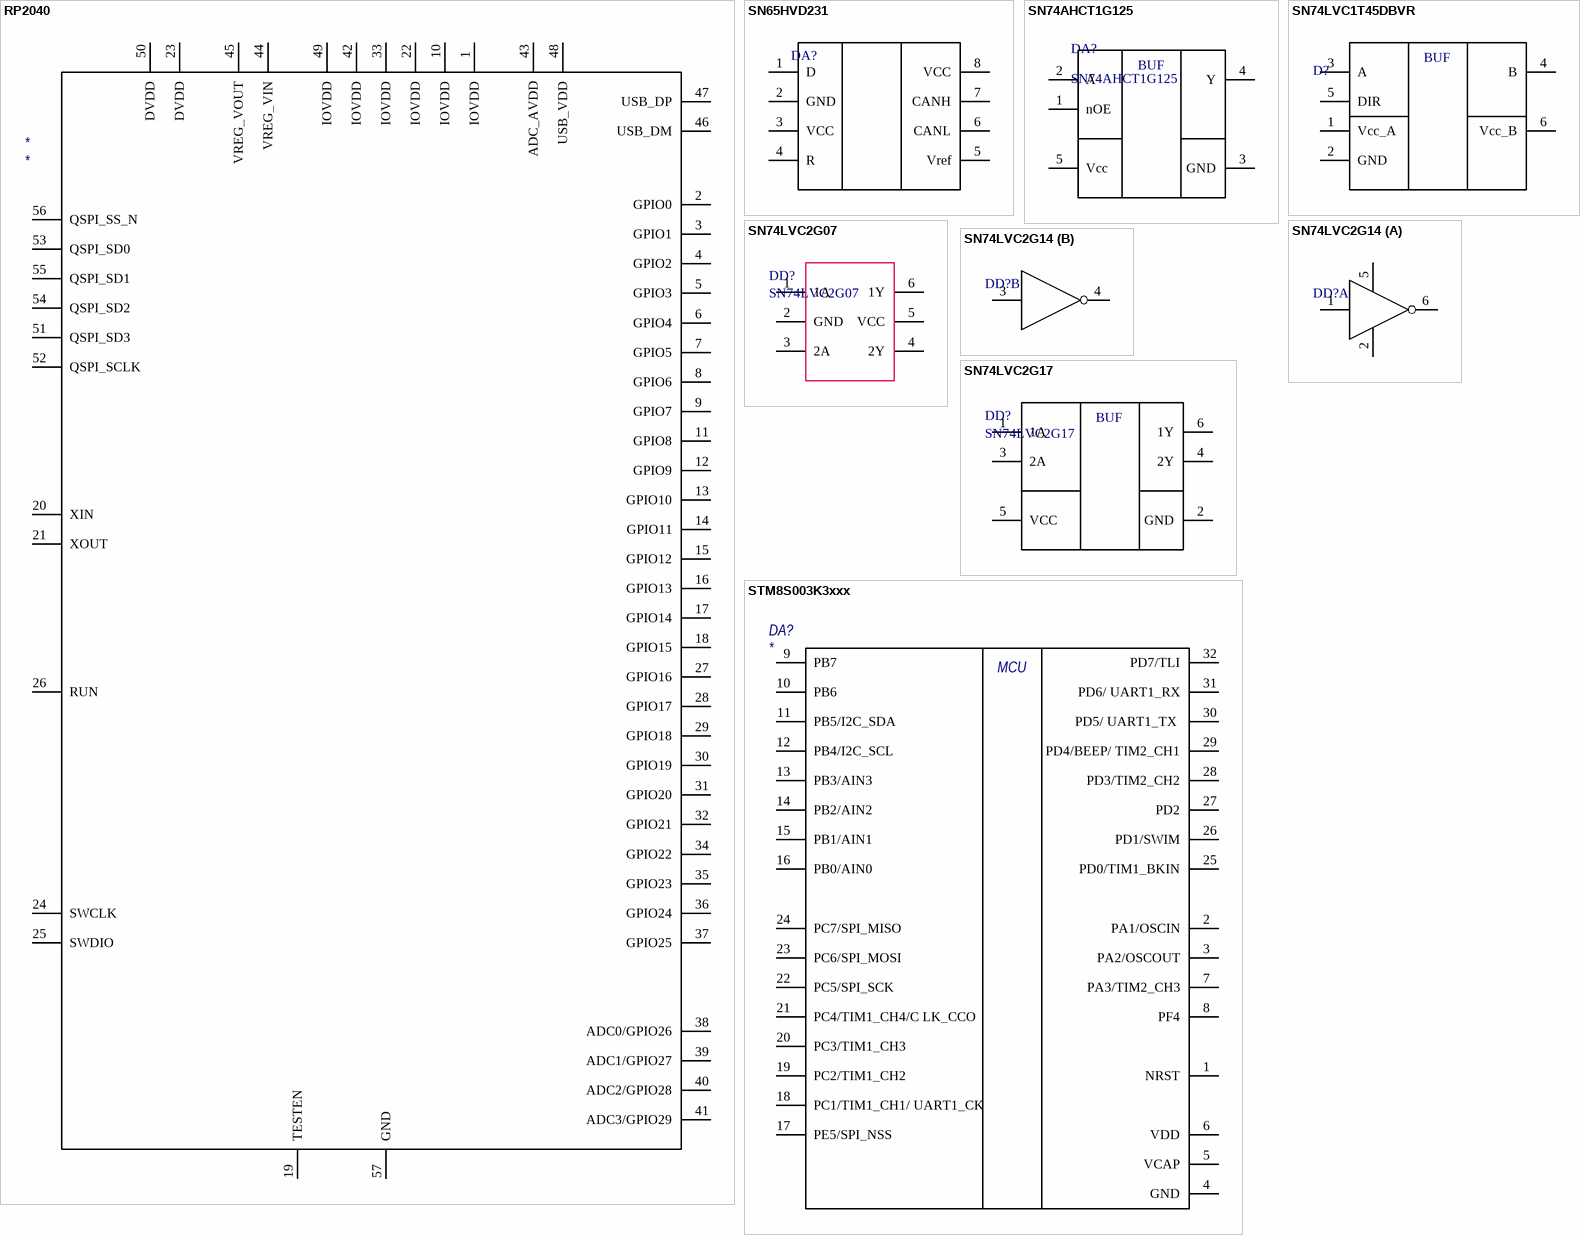
[diagram p11: symbols RP2040 to STM8S003K3xxx]

## RP2040
designator *
pins: 1 IOVDD, 2 GPIO0, 3 GPIO1, 4 GPIO2, 5 GPIO3, 6 GPIO4, 7 GPIO5, 8 GPIO6, 9 GPIO7, 10 IOVDD, 11 GPIO8, 12 GPIO9, 13 GPIO10, 14 GPIO11, 15 GPIO12, 16 GPIO13, 17 GPIO14, 18 GPIO15, 19 TESTEN, 20 XIN, 21 XOUT, 22 IOVDD, 23 DVDD, 24 SWCLK, 25 SWDIO, 26 RUN, 27 GPIO16, 28 GPIO17, 29 GPIO18, 30 GPIO19, 31 GPIO20, 32 GPIO21, 33 IOVDD, 34 GPIO22, 35 GPIO23, 36 GPIO24, 37 GPIO25, 38 ADC0/GPIO26, 39 ADC1/GPIO27, 40 ADC2/GPIO28, 41 ADC3/GPIO29, 42 IOVDD, 43 ADC_AVDD, 44 VREG_VIN, 45 VREG_VOUT, 46 USB_DM, 47 USB_DP, 48 USB_VDD, 49 IOVDD, 50 DVDD, 51 QSPI_SD3, 52 QSPI_SCLK, 53 QSPI_SD0, 54 QSPI_SD2, 55 QSPI_SD1, 56 QSPI_SS_N, 57 GND

## SN65HVD231
designator DA?
SN65HVD231
footprint SO-8
pins: 1 D, 2 GND, 3 VCC, 4 R, 5 Vref, 6 CANL, 7 CANH, 8 VCC

## SN74AHCT1G125
designator DA?
ChipDip: 870082705
footprint SOT23-5 (SOT23, 5-Leads, Body 3,0x2,6mm (max), Pitch 0,95mm, IPC Medium Density)
footprint SOT23-5_vaer_1 (SOT23, 6-Leads, Body 2,90x2,45mm, Pitch 0,95mm, IPC Medium Density)
pins: 1 nOE, 2 A, 3 GND, 4 Y, 5 Vcc
text: BUF

## SN74LVC1T45DBVR
designator D?, comment SN74LVC1T45DBVRTexas InstrumentsSOT-23-6  (value not drawn)
Rem: *; Package: SOT-23-6; Value: *; Tolerance: *; Power/Voltage: *; TKE: *; ManufacturerPartNumber: SN74LVC1T45DBVR; Manufacturer: Texas Instruments; Quantity: *; Примечание: *
footprint SOT23-6 (SOT23, 6-Leads, Body 2,90x2,45mm, Pitch 0,95mm, IPC Medium Density)
pins: 1 Vcc_A, 2 GND, 3 A, 4 B, 5 DIR, 6 Vcc_B
text: BUF

## SN74LVC2G07
designator DD?
footprint SOT23-6 (SOT23, 6-Leads, Body 2,90x2,45mm, Pitch 0,95mm, IPC Medium Density)
pins: 1 1A, 2 GND, 3 2A, 4 2Y, 5 VCC, 6 1Y

## SN74LVC2G14
designator DD?, comment ***  (value not drawn)
Rem: *; Package: *; Value: *; Tolerance: *; Power/Voltage: *; TKE: *; ManufacturerPartNumber: *; Manufacturer: *; Quantity: *; Примечание: *
part A pins: 1, 2, 5, 6
part B pins: 3, 4

## SN74LVC2G17
designator DD?
footprint SOT23-6 (SOT23, 6-Leads, Body 2,90x2,45mm, Pitch 0,95mm, IPC Medium Density)
pins: 1 1A, 2 GND, 3 2A, 4 2Y, 5 VCC, 6 1Y
text: BUF

## STM8S003K3xxx
designator DA?
pins: 1 NRST, 2 PA1/OSCIN, 3 PA2/OSCOUT, 4 GND, 5  VCAP, 6 VDD, 7 PA3/TIM2_CH3, 8 PF4, 9 PB7, 10 PB6, 11 PB5/I2C_SDA, 12 PB4/I2C_SCL, 13 PB3/AIN3, 14 PB2/AIN2, 15 PB1/AIN1, 16 PB0/AIN0, 17 PE5/SPI_NSS, 18 PC1/TIM1_CH1/ UART1_CK, 19 PC2/TIM1_CH2, 20 PC3/TIM1_CH3 , 21 PC4/TIM1_CH4/C LK_CCO, 22 PC5/SPI_SCK, 23 PC6/SPI_MOSI, 24 PC7/SPI_MISO, 25 PD0/TIM1_BKIN, 26 PD1/SWIM, 27 PD2, 28 PD3/TIM2_CH2, 29 PD4/BEEP/ TIM2_CH1, 30 PD5/ UART1_TX , 31 PD6/ UART1_RX, 32 PD7/TLI
text: MCU

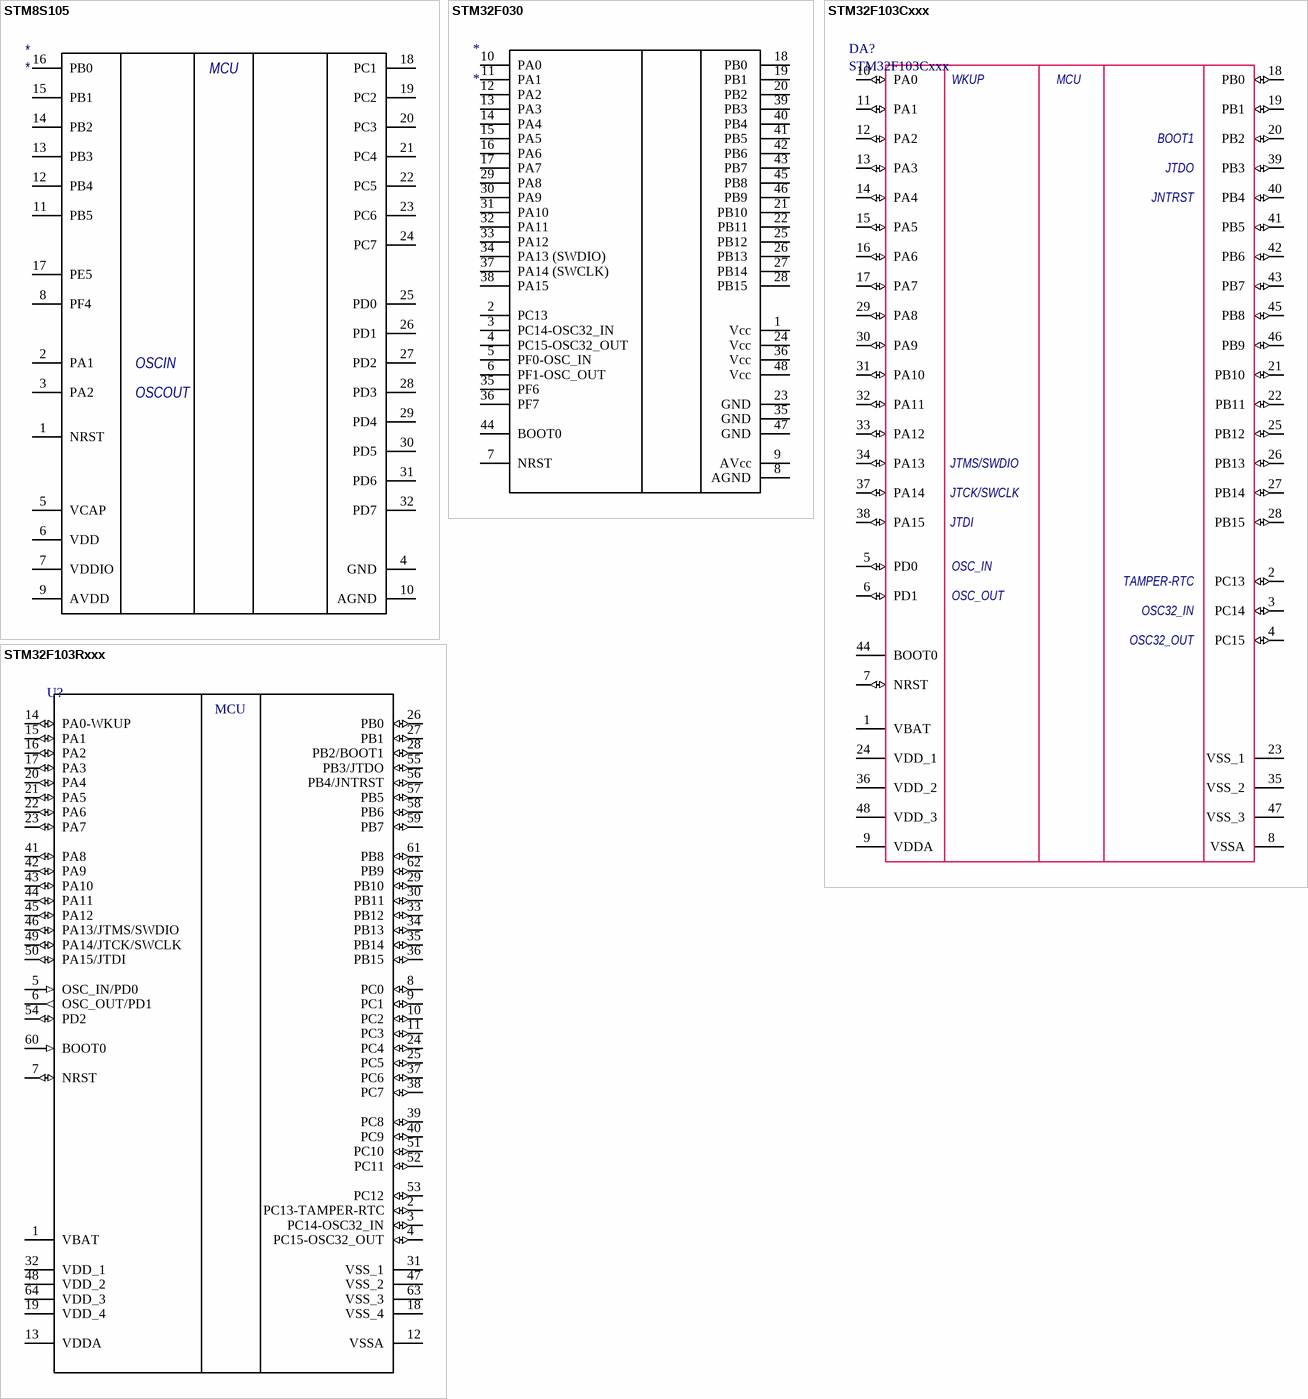
[diagram p12: symbols STM8S105 to STM32F103Rxxx]

## STM8S105
designator *
pins: 1 NRST, 2 PA1, 3 PA2, 4 GND, 5 VCAP, 6 VDD, 7 VDDIO, 8 PF4, 9 AVDD, 10 AGND, 11 PB5, 12 PB4, 13 PB3, 14 PB2, 15 PB1, 16 PB0, 17 PE5, 18 PC1, 19 PC2, 20 PC3, 21 PC4, 22 PC5, 23 PC6, 24 PC7, 25 PD0, 26 PD1, 27 PD2, 28 PD3, 29 PD4, 30 PD5, 31 PD6, 32 PD7
text: MCU; OSCIN; OSCOUT

## STM32F030
designator *
pins: 1 Vcc, 2 PC13 , 3 PC14-OSC32_IN, 4 PC15-OSC32_OUT , 5 PF0-OSC_IN , 6 PF1-OSC_OUT , 7 NRST , 8 AGND, 9 AVcc, 10 PA0 , 11 PA1 , 12 PA2 , 13 PA3 , 14 PA4 , 15 PA5 , 16 PA6 , 17 PA7 , 18 PB0 , 19 PB1 , 20 PB2 , 21 PB10 , 22 PB11 , 23 GND, 24 Vcc, 25 PB12 , 26 PB13 , 27 PB14 , 28 PB15 , 29 PA8 , 30 PA9 , 31 PA10 , 32 PA11 , 33 PA12 , 34 PA13 (SWDIO) , 35 PF6 , 35 GND, 36 PF7 , 36 Vcc, 37 PA14 (SWCLK) , 38 PA15 , 39 PB3 , 40 PB4 , 41 PB5 , 42 PB6 , 43 PB7 , 44 BOOT0 , 45 PB8 , 46 PB9 , 47 GND, 48 Vcc

## STM32F103Cxxx
designator DA?
pins: 1 VBAT (power), 2 PC13 (io), 3 PC14 (io), 4 PC15 (io), 5 PD0 (io), 6 PD1 (io), 7 NRST (io), 8 VSSA (power), 9 VDDA (power), 10 PA0 (io), 11 PA1 (io), 12 PA2 (io), 13 PA3 (io), 14 PA4 (io), 15 PA5 (io), 16 PA6 (io), 17 PA7 (io), 18 PB0 (io), 19 PB1 (io), 20 PB2 (io), 21 PB10 (io), 22 PB11 (io), 23 VSS_1 (power), 24 VDD_1 (power), 25 PB12 (io), 26 PB13 (io), 27 PB14 (io), 28 PB15 (io), 29 PA8 (io), 30 PA9 (io), 31 PA10 (io), 32 PA11 (io), 33 PA12 (io), 34 PA13 (io), 35 VSS_2 (power), 36 VDD_2 (power), 37 PA14 (io), 38 PA15 (io), 39 PB3 (io), 40 PB4 (io), 41 PB5 (io), 42 PB6 (io), 43 PB7 (io), 44 BOOT0, 45 PB8 (io), 46 PB9 (io), 47 VSS_3 (power), 48 VDD_3 (power)
text: WKUP; MCU; BOOT1; JTDO; JNTRST; JTMS/SWDIO; JTCK/SWCLK; JTDI; OSC_IN; TAMPER-RTC; OSC_OUT; OSC32_IN; OSC32_OUT

## STM32F103Rxxx
designator U?
STM32 ARM-based 32-bit MCU with 32 Kbytes Flash, 64-pin LQFP, Industrial Temperature; Published: 30-May-2008; DatasheetVersion: rev6, Mar-2008; PackageVersion: Mar-2008; PackageReference: LQFP64; Publisher: Altium Limited; PackageDescription: 64-Pin Low-Profile Quad Flat Pack, 10 x 10 mm Body, 0.5 mm Pitch (LQFP64); ComponentLink1Description: Manufacturer Link; ComponentLink1URL: www.st.com/stm32; ComponentLink2Description: Datasheet; ComponentLink2URL: http://www.st.com/stonline/products/literature/ds/13587.pdf
pins: 1 VBAT (power), 2 PC13-TAMPER-RTC (io), 3 PC14-OSC32_IN (io), 4 PC15-OSC32_OUT (io), 5 OSC_IN/PD0 (in), 6 OSC_OUT/PD1 (out), 7 NRST (io), 8 PC0 (io), 9 PC1 (io), 10 PC2 (io), 11 PC3 (io), 12 VSSA (power), 13 VDDA (power), 14 PA0-WKUP (io), 15 PA1 (io), 16 PA2 (io), 17 PA3 (io), 18 VSS_4 (power), 19 VDD_4 (power), 20 PA4 (io), 21 PA5 (io), 22 PA6 (io), 23 PA7 (io), 24 PC4 (io), 25 PC5 (io), 26 PB0 (io), 27 PB1 (io), 28 PB2/BOOT1 (io), 29 PB10 (io), 30 PB11 (io), 31 VSS_1 (power), 32 VDD_1 (power), 33 PB12 (io), 34 PB13 (io), 35 PB14 (io), 36 PB15 (io), 37 PC6 (io), 38 PC7 (io), 39 PC8 (io), 40 PC9 (io), 41 PA8 (io), 42 PA9 (io), 43 PA10 (io), 44 PA11 (io), 45 PA12 (io), 46 PA13/JTMS/SWDIO (io), 47 VSS_2 (power), 48 VDD_2 (power), 49 PA14/JTCK/SWCLK (io), 50 PA15/JTDI (io), 51 PC10 (io), 52 PC11 (io), 53 PC12 (io), 54 PD2 (io), 55 PB3/JTDO (io), 56 PB4/JNTRST (io), 57 PB5 (io), 58 PB6 (io), 59 PB7 (io), 60 BOOT0 (in), 61 PB8 (io), 62 PB9 (io), 63 VSS_3 (power), 64 VDD_3 (power)
text: MCU

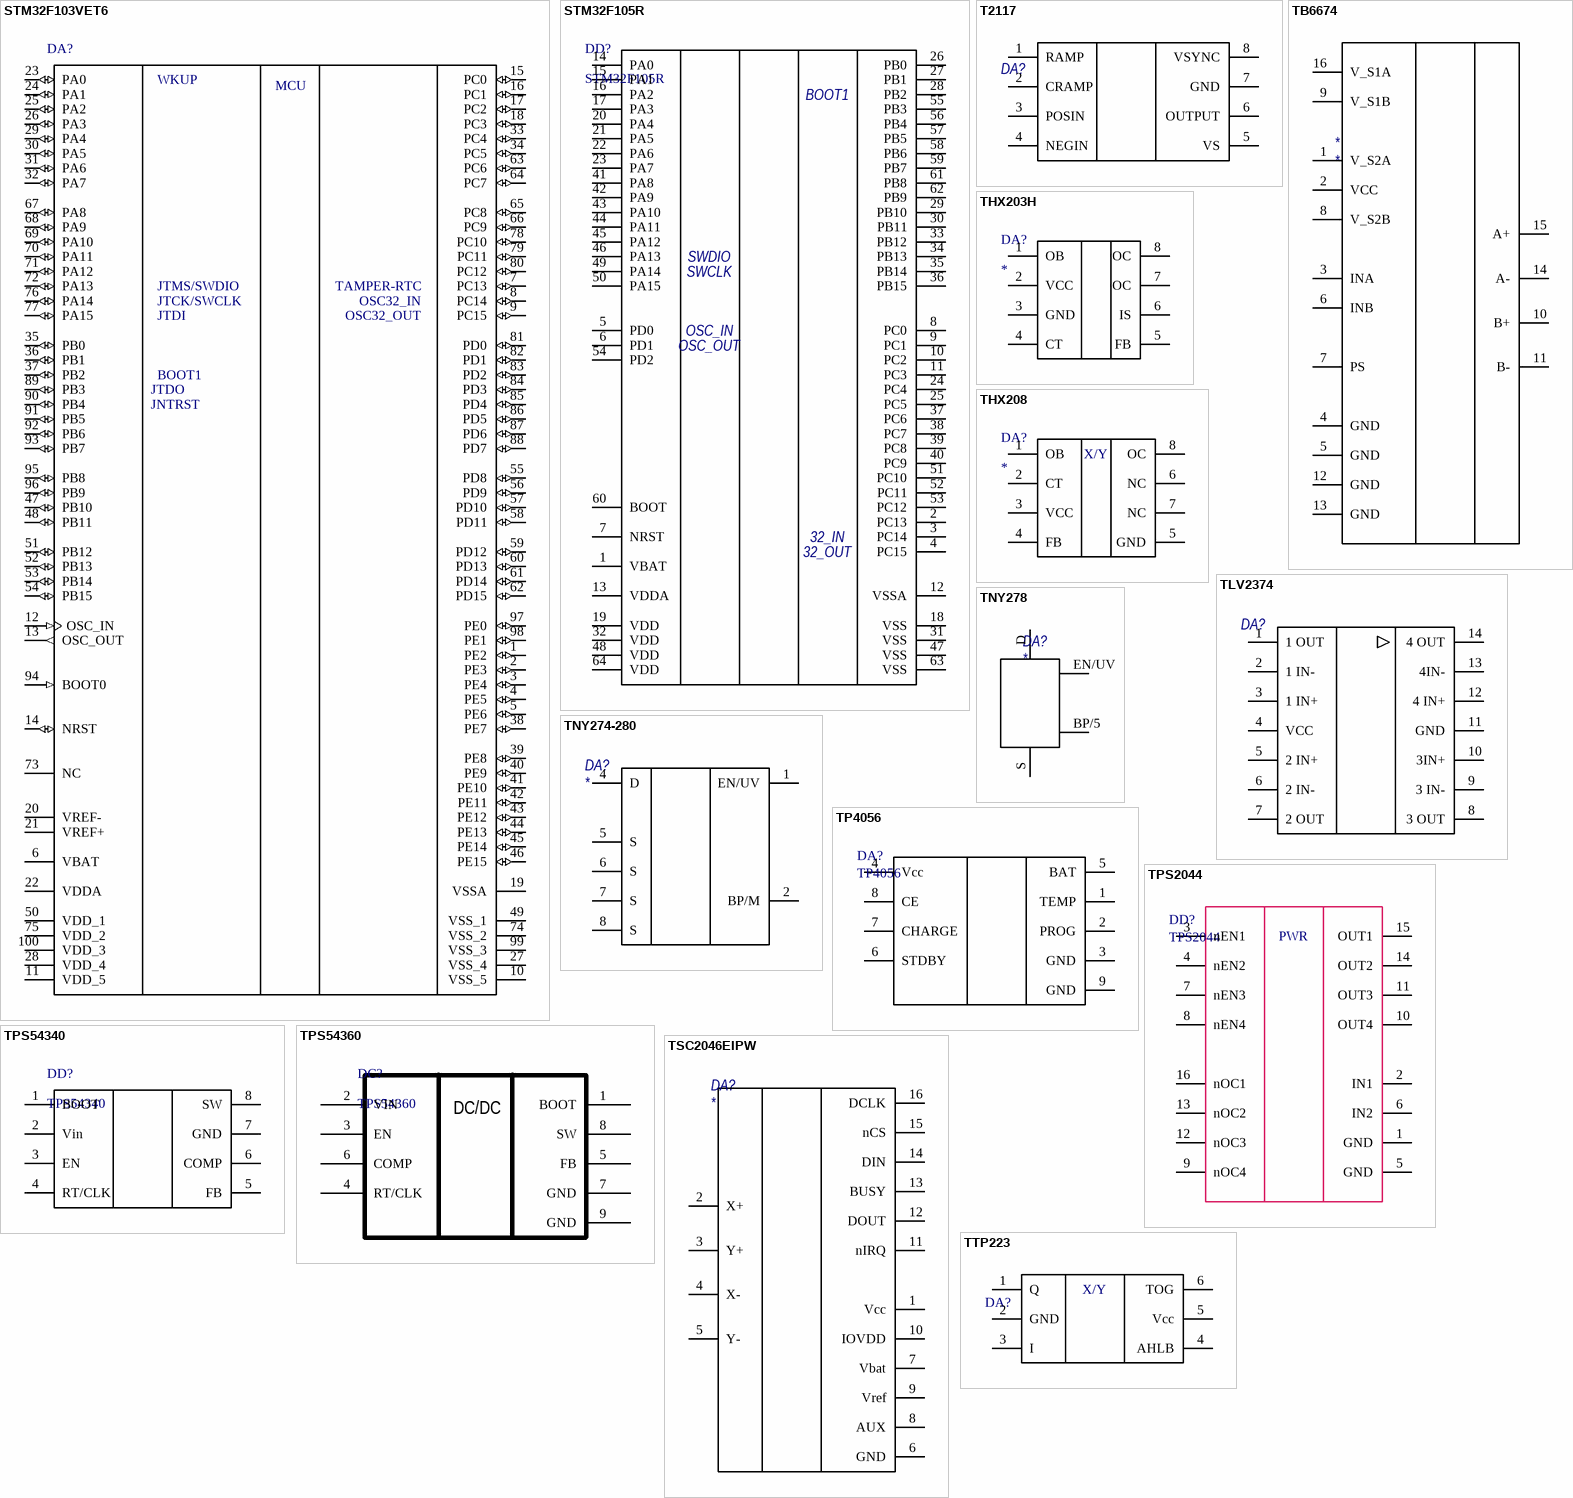
[diagram p13: symbols STM32F103VET6 to TTP223]

## STM32F103VET6
designator DA?  (value not drawn)
footprint LQFP100_N
pins: 1 PE2 (io), 2 PE3 (io), 3 PE4 (io), 4 PE5 (io), 5 PE6 (io), 6 VBAT (power), 7 PC13 (io), 8 PC14 (io), 9 PC15 (io), 10 VSS_5 (power), 11 VDD_5 (power), 12 OSC_IN (in), 13 OSC_OUT (out), 14 NRST (io), 15 PC0 (io), 16 PC1 (io), 17 PC2 (io), 18 PC3 (io), 19 VSSA (power), 20 VREF- (power), 21 VREF+ (power), 22 VDDA (power), 23 PA0 (io), 24 PA1 (io), 25 PA2 (io), 26 PA3 (io), 27 VSS_4 (power), 28 VDD_4 (power), 29 PA4 (io), 30 PA5 (io), 31 PA6 (io), 32 PA7 (io), 33 PC4 (io), 34 PC5 (io), 35 PB0 (io), 36 PB1 (io), 37 PB2 (io), 38 PE7 (io), 39 PE8 (io), 40 PE9 (io), 41 PE10 (io), 42 PE11 (io), 43 PE12 (io), 44 PE13 (io), 45 PE14 (io), 46 PE15 (io), 47 PB10 (io), 48 PB11 (io), 49 VSS_1 (power), 50 VDD_1 (power), 51 PB12 (io), 52 PB13 (io), 53 PB14 (io), 54 PB15 (io), 55 PD8 (io), 56 PD9 (io), 57 PD10 (io), 58 PD11 (io), 59 PD12 (io), 60 PD13 (io), 61 PD14 (io), 62 PD15 (io), 63 PC6 (io), 64 PC7 (io), 65 PC8 (io), 66 PC9 (io), 67 PA8 (io), 68 PA9 (io), 69 PA10 (io), 70 PA11 (io), 71 PA12 (io), 72 PA13 (io), 73 NC, 74 VSS_2 (power), 75 VDD_2 (power), 76 PA14 (io), 77 PA15 (io), 78 PC10 (io), 79 PC11 (io), 80 PC12 (io), 81 PD0 (io), 82 PD1 (io), 83 PD2 (io), 84 PD3 (io), 85 PD4 (io), 86 PD5 (io), 87 PD6 (io), 88 PD7 (io), 89 PB3 (io), 90 PB4 (io), 91 PB5 (io), 92 PB6 (io), 93 PB7 (io), 94 BOOT0 (in), 95 PB8 (io), 96 PB9 (io), 97 PE0 (io), 98 PE1 (io), 99 VSS_3 (power), 100 VDD_3 (power)
text: WKUP; MCU; JTMS/SWDIO; TAMPER-RTC; JTCK/SWCLK; OSC32_IN; JTDI; OSC32_OUT; BOOT1; JTDO; JNTRST

## STM32F105R
designator DD?
footprint TSSOP8 (TSOP, 8-Leads, Body 3,00x4,40mm, Pitch 0,65mm, IPC Medium Density)
pins: 1 VBAT (power), 2 PC13, 3 PC14, 4 PC15, 5 PD0, 6 PD1, 7 NRST, 8 PC0, 9 PC1, 10 PC2, 11 PC3, 12 VSSA, 13 VDDA, 14 PA0, 15 PA1, 16 PA2, 17 PA3, 18 VSS, 19 VDD, 20 PA4, 21 PA5, 22 PA6, 23 PA7, 24 PC4, 25 PC5, 26 PB0, 27 PB1, 28 PB2, 29 PB10, 30 PB11, 31 VSS, 32 VDD, 33 PB12, 34 PB13, 35 PB14, 36 PB15, 37 PC6, 38 PC7, 39 PC8, 40 PC9, 41 PA8, 42 PA9, 43 PA10, 44 PA11, 45 PA12, 46 PA13, 47 VSS, 48 VDD, 49 PA14, 50 PA15, 51 PC10, 52 PC11, 53 PC12, 54 PD2, 55 PB3, 56 PB4, 57 PB5, 58 PB6, 59 PB7, 60 BOOT, 61 PB8, 62 PB9, 63 VSS, 64 VDD
text: BOOT1; SWDIO; SWCLK; OSC_IN; OSC_OUT; 32_IN; 32_OUT

## T2117
designator DA?  (value not drawn)
pins: 1 RAMP, 2 CRAMP, 3 POSIN, 4 NEGIN, 5 VS, 6 OUTPUT, 7 GND, 8 VSYNC

## TB6674
designator *
pins: 1 V_S2A, 2 VCC, 3 INA, 4 GND, 5 GND, 6 INB, 7 PS, 8 V_S2B, 9 V_S1B, 10 B+, 11 B-, 12 GND, 13 GND, 14 A-, 15 A+, 16 V_S1A

## THX203H
designator DA?
pins: 1 OB, 2 VCC, 3 GND, 4 CT, 5 FB, 6 IS, 7 OC, 8 OC

## THX208
designator DA?
pins: 1 OB, 2 CT, 3 VCC, 4 FB, 5 GND, 6 NC, 7 NC, 8 OC
text: X/Y

## TLV2374
designator DA?  (value not drawn)
pins: 1 1 OUT, 2 1 IN-, 3 1 IN+, 4 VCC, 5 2 IN+, 6 2 IN-, 7 2 OUT, 8 3 OUT, 9 3 IN-, 10 3IN+, 11 GND, 12 4 IN+, 13 4IN-, 14 4 OUT

## TNY274-280
designator DA?
pins: 1 EN/UV, 2 BP/M, 4 D, 5 S, 6 S, 7 S, 8 S

## TNY278
designator DA?
pins: BP/5, D, EN/UV, S

## TP4056
designator DA?
footprint SO-8
pins: 1 TEMP, 2 PROG, 3 GND, 4 Vcc, 5 BAT, 6 STDBY, 7 CHARGE, 8 CE, 9 GND

## TPS2044
designator DD?
footprint SOIC16-8N
pins: 1 GND, 2 IN1, 3 nEN1, 4 nEN2, 5 GND, 6 IN2, 7 nEN3, 8 nEN4, 9 nOC4, 10 OUT4, 11 OUT3, 12 nOC3, 13 nOC2, 14 OUT2, 15 OUT1, 16 nOC1
text: PWR

## TPS54340
designator DD?
footprint TSSOP8 (TSOP, 8-Leads, Body 3,00x4,40mm, Pitch 0,65mm, IPC Medium Density)
pins: 1 BOOT, 2 Vin, 3 EN, 4 RT/CLK, 5 FB, 6 COMP, 7 GND, 8 SW

## TPS54360
designator DC?
footprint HSOP-8
pins: 1 BOOT, 2 VIN, 3 EN, 4 RT/CLK, 5 FB, 6 COMP, 7 GND, 8 SW, 9 GND
text: DC/DC

## TSC2046EIPW
designator DA?
pins: 1 Vcc, 2 X+, 3 Y+, 4 X-, 5 Y-, 6 GND, 7 Vbat, 8 AUX, 9 Vref, 10 IOVDD, 11 nIRQ, 12 DOUT, 13 BUSY, 14 DIN, 15 nCS, 16 DCLK

## TTP223
designator DA?  (value not drawn)
pins: 1 Q, 2 GND, 3 I, 4 AHLB, 5 Vcc, 6 TOG
text: X/Y

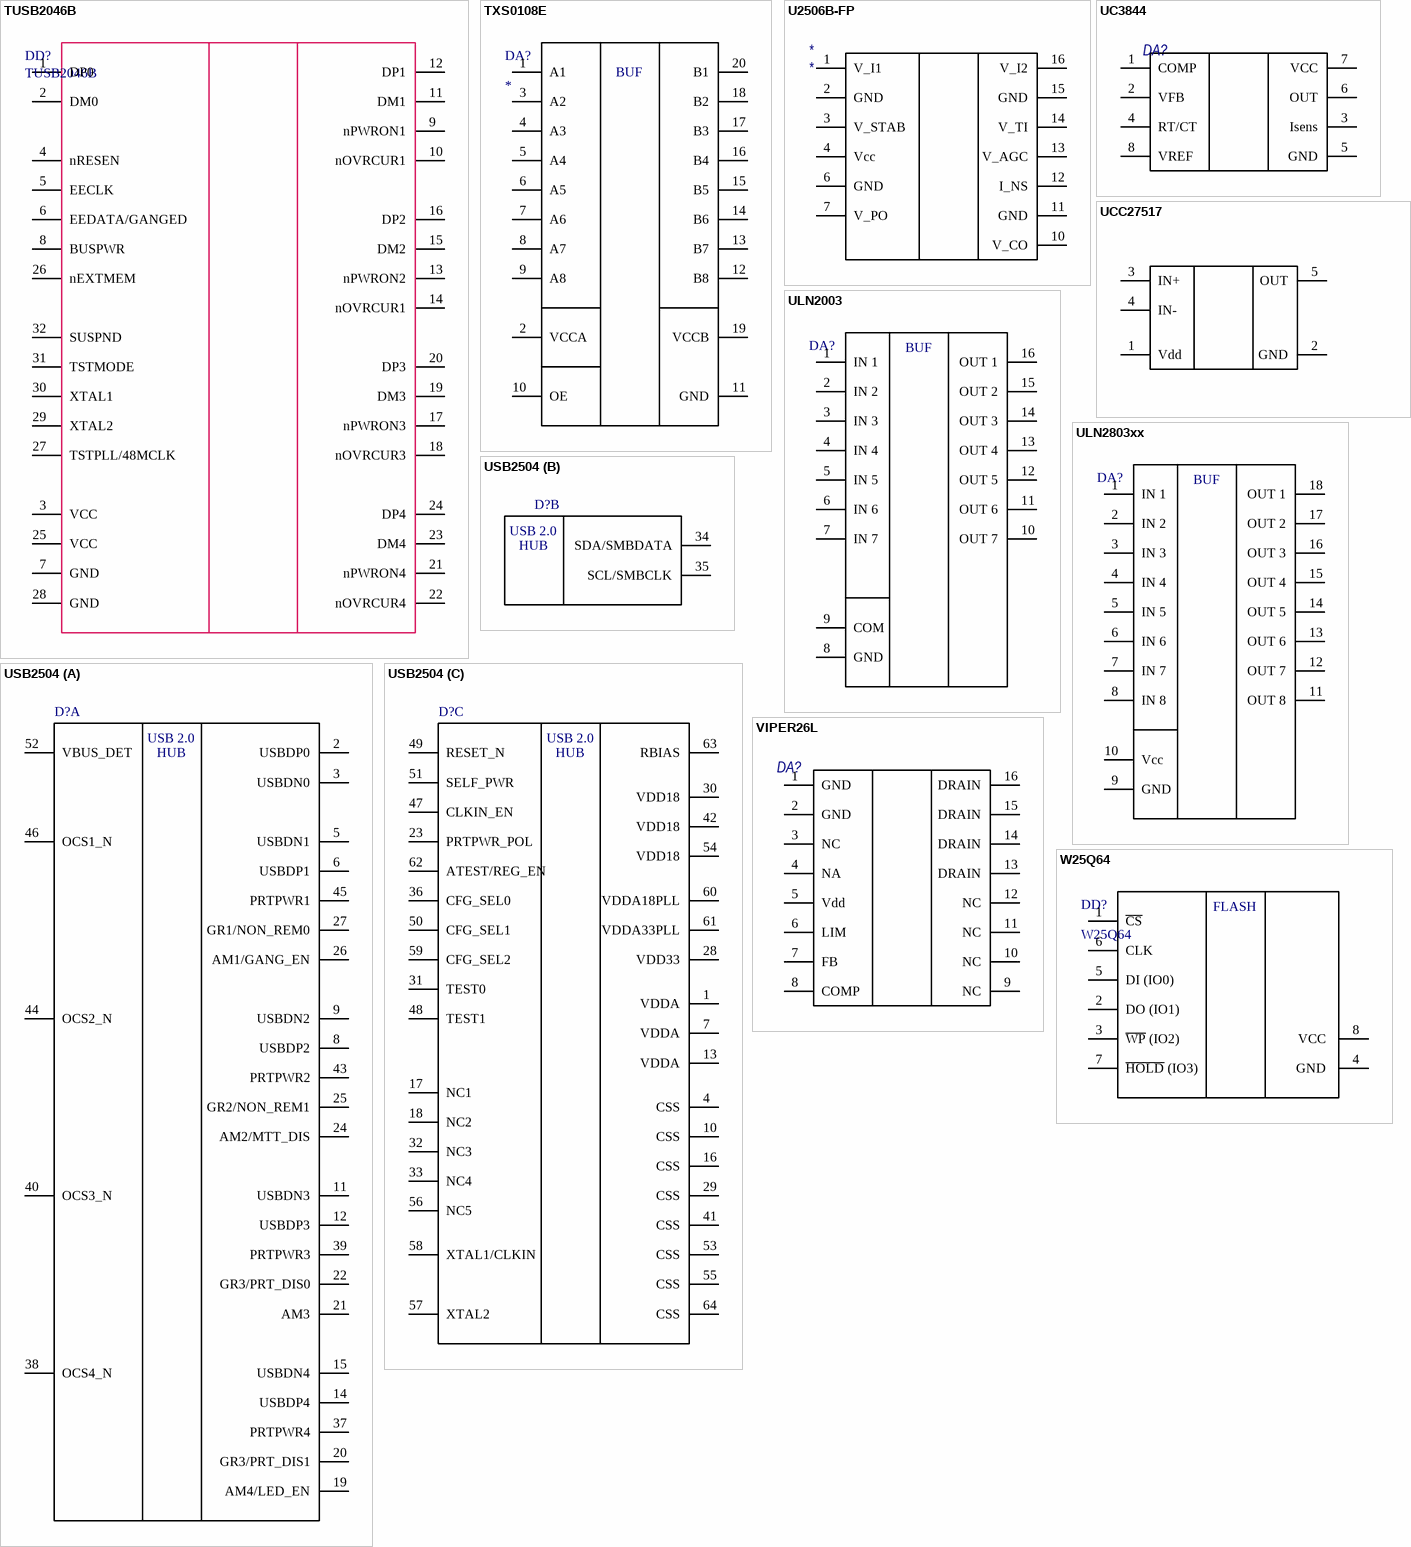
[diagram p14: symbols TUSB2046B to W25Q64]

## TUSB2046B
designator DD?
footprint TQFP-32N (TQFP, 32-Leads, Body 7,00x7,00mm, Pitch 0,80mm, IPC Medium Density)
pins: 1 DP0, 2 DM0, 3 VCC, 4 nRESEN, 5 EECLK, 6 EEDATA/GANGED, 7 GND, 8 BUSPWR, 9 nPWRON1, 10 nOVRCUR1, 11 DM1, 12 DP1, 13 nPWRON2, 14 nOVRCUR1, 15 DM2, 16 DP2, 17 nPWRON3, 18 nOVRCUR3, 19 DM3, 20 DP3, 21 nPWRON4, 22 nOVRCUR4, 23 DM4, 24 DP4, 25 VCC, 26 nEXTMEM, 27 TSTPLL/48MCLK, 28 GND, 29 XTAL2, 30 XTAL1, 31 TSTMODE, 32 SUSPND

## TXS0108E
designator DA?
footprint TSSOP_20
pins: 1 A1, 2 VCCA, 3 A2, 4 A3, 5 A4, 6 A5, 7 A6, 8 A7, 9 A8, 10 OE, 11 GND, 12 B8, 13 B7, 14 B6, 15 B5, 16 B4, 17 B3, 18 B2, 19 VCCB, 20 B1
text: BUF

## U2506B-FP
designator *
pins: 1 V_I1, 2 GND, 3 V_STAB, 4 Vcc, 6 GND, 7 V_PO, 10 V_CO, 11 GND, 12 I_NS, 13 V_AGC, 14 V_TI, 15 GND, 16 V_I2

## UC3844
designator DA?  (value not drawn)
pins: 1 COMP, 2 VFB, 3 Isens, 4 RT/CT, 5 GND, 6 OUT, 7 VCC, 8 VREF

## UCC27517
designator DD?
pins: 1 Vdd, 2 GND, 3 IN+, 4 IN-, 5 OUT

## ULN2003
designator DA?
pins: 1 IN 1, 2 IN 2, 3 IN 3, 4 IN 4, 5 IN 5, 6 IN 6, 7 IN 7, 8 GND, 9 COM, 10 OUT 7, 11 OUT 6, 12 OUT 5, 13 OUT 4, 14 OUT 3, 15 OUT 2, 16 OUT 1
text: BUF

## ULN2803xx
designator DA?, comment ULN2803AFWGToshibaSOIC-18W  (value not drawn)
Rem: *; Package: SOIC-18W; Value: ULN2803AFWG; Tolerance: *; Power/Voltage: *; TKE: *; ManufacturerPartNumber: ULN2803AFWG; Manufacturer: Toshiba; Quantity: *; Примечание: *
footprint SOIC-18W (SOIC, 18-Leads, Body 11,55x7,50mm, Pitch 1,27mm, IPC Medium Density)
pins: 1 IN 1, 2 IN 2, 3 IN 3, 4 IN 4, 5 IN 5, 6 IN 6, 7 IN 7, 8 IN 8, 9 GND, 10 Vcc, 11 OUT 8, 12 OUT 7, 13 OUT 6, 14 OUT 5, 15 OUT 4, 16 OUT 3, 17 OUT 2, 18 OUT 1
text: BUF

## USB2504
designator D?, comment USB2504SMECTQFP-64  (value not drawn)
Manufacturer: SMEC; Rem: *; Package: TQFP-64; Value: *; Tolerance: *; Power/Voltage: *; TKE: *; ManufacturerPartNumber: USB2504; Quantity: *; Примечание: *; Part Number: USB2504 SMEC TQFP-64
footprint TQFP_64
part A pins: 2 USBDP0, 3 USBDN0, 5 USBDN1, 6 USBDP1, 8 USBDP2, 9 USBDN2, 11 USBDN3, 12 USBDP3, 14 USBDP4, 15 USBDN4, 19 AM4/LED_EN, 20 GR3/PRT_DIS1, 21 AM3, 22 GR3/PRT_DIS0, 24 AM2/MTT_DIS, 25 GR2/NON_REM1, 26 AM1/GANG_EN, 27 GR1/NON_REM0, 37 PRTPWR4, 38 OCS4_N, 39 PRTPWR3, 40 OCS3_N, 43 PRTPWR2, 44 OCS2_N, 45 PRTPWR1, 46 OCS1_N, 52 VBUS_DET
part B pins: 34 SDA/SMBDATA, 35 SCL/SMBCLK
part C pins: 1 VDDA, 4 CSS, 7 VDDA, 10 CSS, 13 VDDA, 16 CSS, 17 NC1, 18 NC2, 23 PRTPWR_POL, 28 VDD33, 29 CSS, 30 VDD18, 31 TEST0, 32 NC3, 33 NC4, 36 CFG_SEL0, 41 CSS, 42 VDD18, 47 CLKIN_EN, 48 TEST1, 49 RESET_N, 50 CFG_SEL1, 51 SELF_PWR, 53 CSS, 54 VDD18, 55 CSS, 56 NC5, 57 XTAL2, 58 XTAL1/CLKIN, 59 CFG_SEL2, 60 VDDA18PLL, 61 VDDA33PLL, 62 ATEST/REG_EN, 63 RBIAS, 64 CSS
part A text: USB 2.0; HUB
part B text: USB 2.0; HUB
part C text: USB 2.0; HUB

## VIPER26L
designator DA?  (value not drawn)
pins: 1 GND, 2 GND, 3 NC, 4 NA, 5 Vdd, 6 LIM, 7 FB, 8 COMP, 9 NC, 10 NC, 11 NC, 12 NC, 13 DRAIN, 14 DRAIN, 15 DRAIN, 16 DRAIN

## W25Q64
designator DD?
pins: 1 ~{CS}, 2 DO (IO1) , 3 ~{WP} (IO2) , 4 GND , 5 DI (IO0) , 6 CLK , 7 ~{HOLD} (IO3) , 8 VCC 
text: FLASH

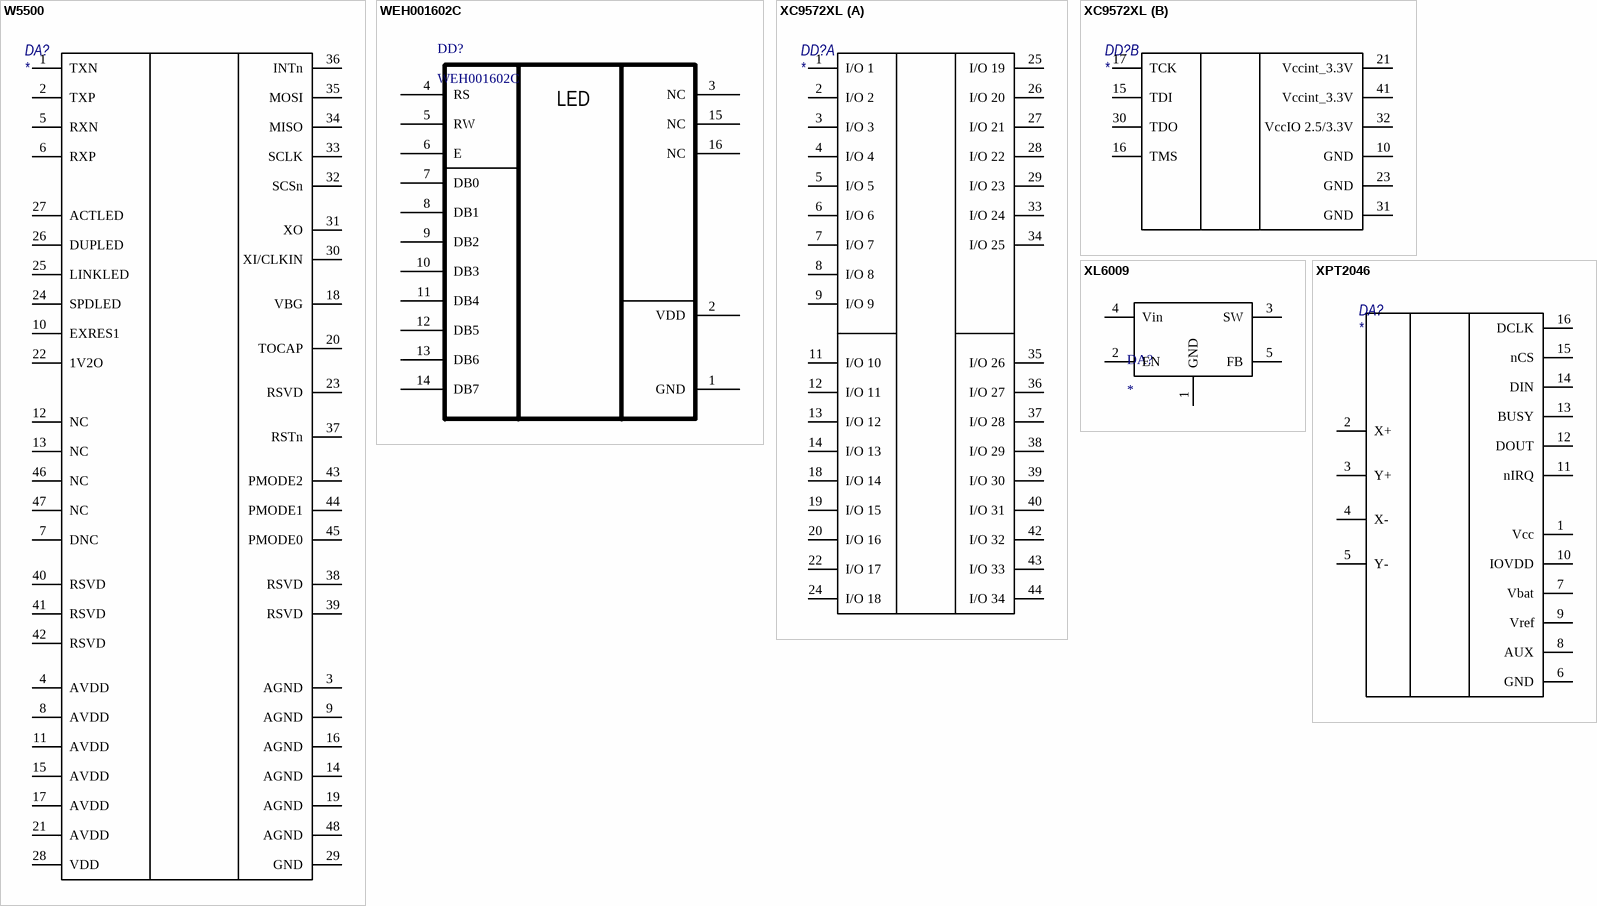
[diagram p15: symbols W5500 to XPT2046]

## W5500
designator DA?
pins: 1 TXN, 2 TXP, 3 AGND, 4 AVDD, 5 RXN, 6 RXP, 7 DNC, 8 AVDD, 9 AGND, 10 EXRES1, 11 AVDD, 12 NC, 13 NC, 14 AGND, 15 AVDD, 16 AGND, 17 AVDD, 18 VBG, 19 AGND, 20 TOCAP, 21 AVDD, 22 1V2O, 23 RSVD, 24 SPDLED, 25 LINKLED, 26 DUPLED, 27 ACTLED, 28 VDD, 29 GND, 30 XI/CLKIN, 31 XO, 32 SCSn, 33 SCLK, 34 MISO, 35 MOSI, 36 INTn, 37 RSTn, 38 RSVD, 39 RSVD, 40 RSVD, 41 RSVD, 42 RSVD, 43 PMODE2, 44 PMODE1, 45 PMODE0, 46 NC, 47 NC, 48 AGND

## WEH001602C
designator DD?
footprint WEH001602C
pins: 1 GND, 2 VDD, 3 NC, 4 RS, 5 RW, 6 E, 7 DB0, 8 DB1, 9 DB2, 10 DB3, 11 DB4, 12 DB5, 13 DB6, 14 DB7, 15 NC, 16 NC
text: LED

## XC9572XL
designator DD?
part A pins: 1 I/O 1, 2 I/O 2, 3 I/O 3, 4 I/O 4, 5 I/O 5, 6 I/O 6, 7 I/O 7, 8 I/O 8, 9 I/O 9, 11 I/O 10, 12 I/O 11, 13 I/O 12, 14 I/O 13, 18 I/O 14, 19 I/O 15, 20 I/O 16, 22 I/O 17, 24 I/O 18, 25 I/O 19, 26 I/O 20, 27 I/O 21, 28 I/O 22, 29 I/O 23, 33 I/O 24, 34 I/O 25, 35 I/O 26, 36 I/O 27, 37 I/O 28, 38 I/O 29, 39 I/O 30, 40 I/O 31, 42 I/O 32, 43 I/O 33, 44 I/O 34
part B pins: 10 GND, 15 TDI, 16 TMS, 17 TCK, 21 Vccint_3.3V, 23 GND, 30 TDO, 31 GND, 32 VccIO 2.5/3.3V, 41 Vccint_3.3V

## XL6009
designator DA?
pins: 1 GND, 2 EN, 3 SW, 4 Vin, 5 FB

## XPT2046
designator DA?
pins: 1 Vcc, 2 X+, 3 Y+, 4 X-, 5 Y-, 6 GND, 7 Vbat, 8 AUX, 9 Vref, 10 IOVDD, 11 nIRQ, 12 DOUT, 13 BUSY, 14 DIN, 15 nCS, 16 DCLK

## РЫБА_1
designator D?, comment ***  (value not drawn)
Rem: *; Package: *; Value: *; Tolerance: *; Power/Voltage: *; TKE: *; ManufacturerPartNumber: *; Manufacturer: *; Quantity: *; Примечание: *